# Altium integrated library Lattice FPGA EC.IntLib: 200 symbols (part 15 of 40)
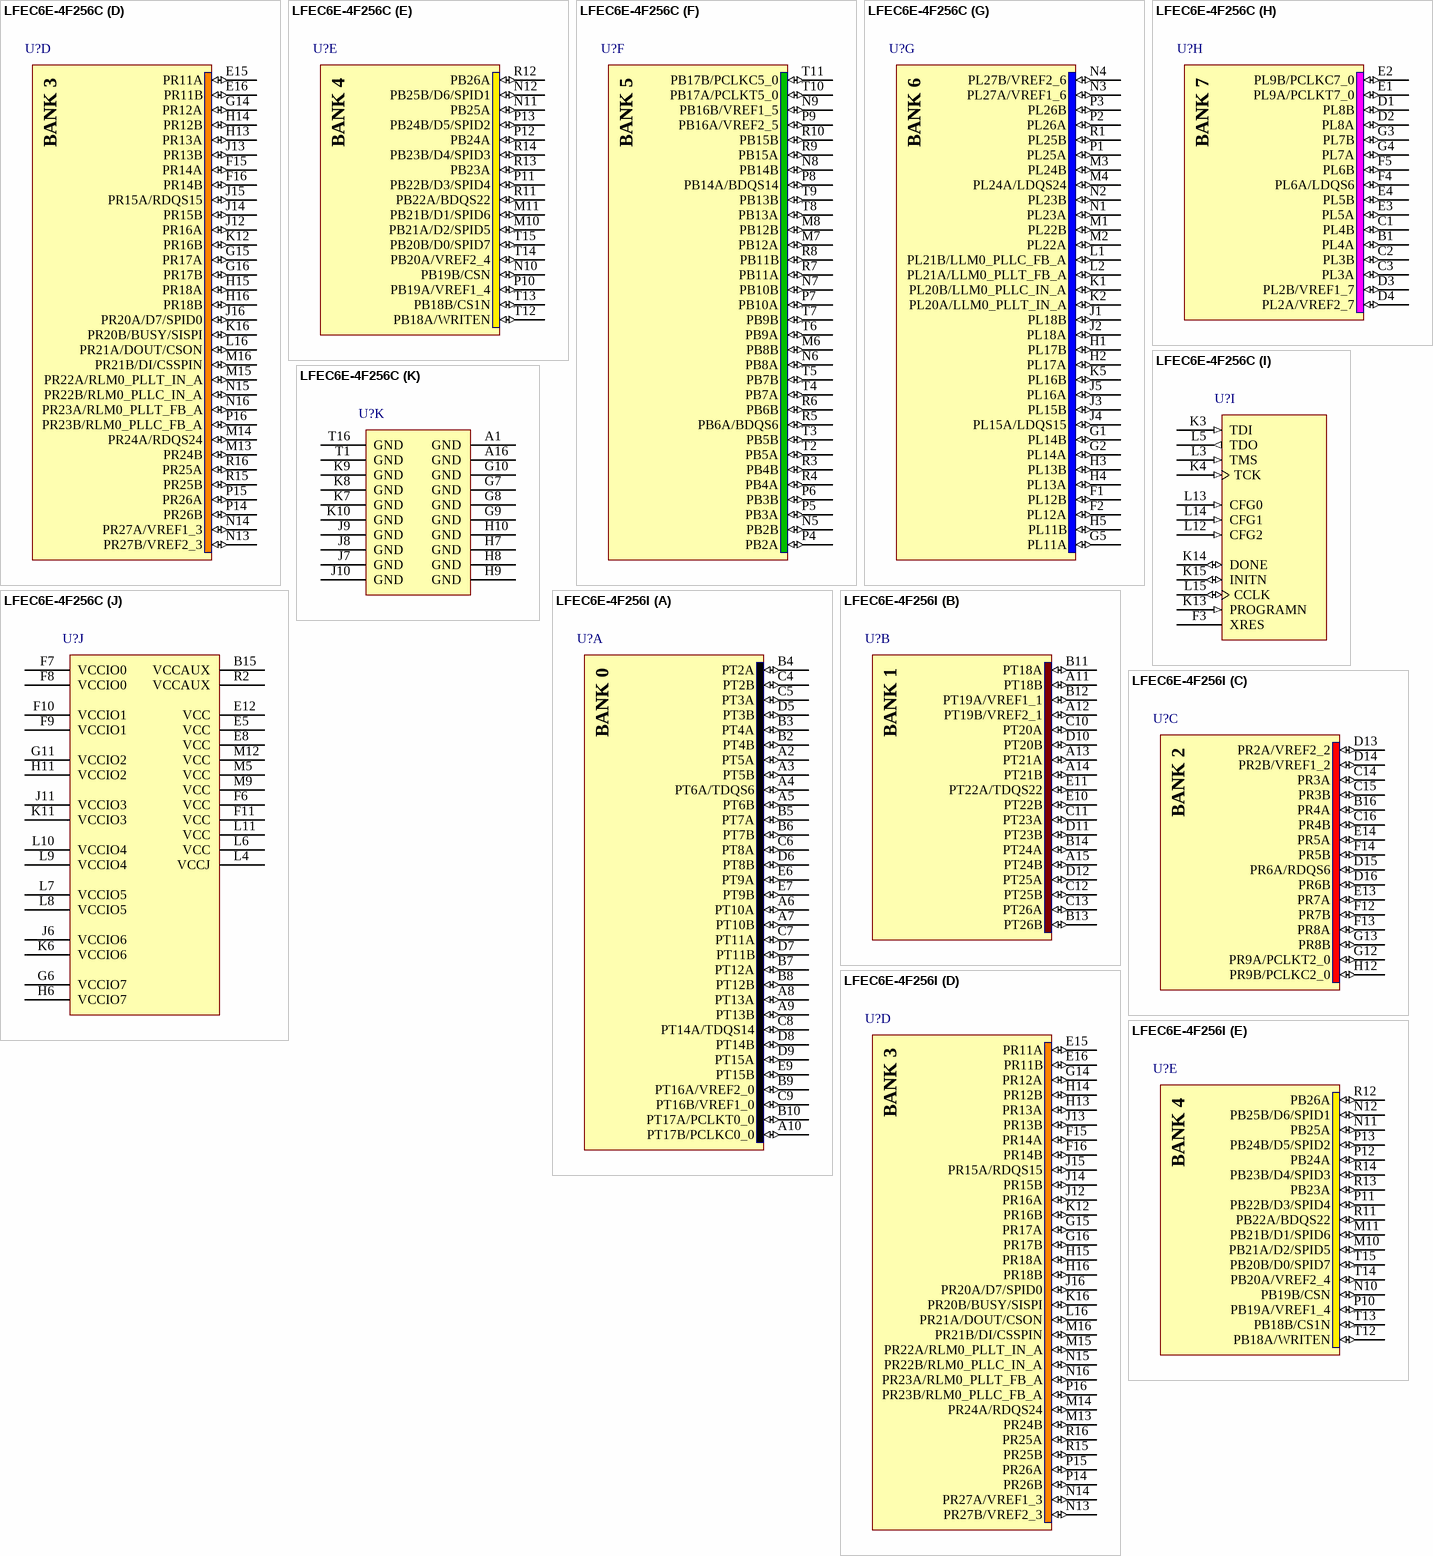
[diagram p186: symbols LFEC6E-4F256C to LFEC6E-4F256I]

## LFEC6E-4F256C
designator U?
EC 1.2V FPGA, 192 I/Os, 2 PLLs, 6.1K LUTs, 256-Pin fpBGA, Speed Grade 4, Commercial Temperature Grade; Published: 4-Mar-2005; LatestRevisionDate: 13-Apr-2006; LatestRevisionNote: IPC-7351 Footprint Added.; DatasheetVersion: ver2.2, Mar-2006; PackageVersion: pkg_33, Apr-2006; PackageReference: fpBGA256; Publisher: Altium Limited; PackageDescription: 256-Ball Fine Pitch Ball Grid Array (fpBGA256); Code_IPC: BGA100P16X16-256; ComponentLink1Description: Manufacturer Link; ComponentLink1URL: http://www.latticesemi.com/products/fpga/ecpec/index.cfm; ComponentLink2Description: Datasheet; ComponentLink2URL: http://www.latticesemi.com/lit/docs/datasheets/fpga/ecp_ec_datasheet.pdf; ComponentLink3Description: Packaging Specification; ComponentLink3URL: http://www.latticesemi.com/lit/docs/package/pkg.pdf; ComponentLink4Description: Lattice Login; ComponentLink4URL: http://www.latticesemi.com/account/login.cfm
footprint fpBGA256 (BGA, 256-Leads, Body 17x17mm, Pitch 1mm)
3D model EC6E-fpBGA256 (256-Ball Fine Pitch Ball Grid Array (fpBGA256))
part A pins: A2 PT5A (io), A3 PT5B (io), A4 PT6A/TDQS6 (io), A5 PT6B (io), A6 PT10A (io), A7 PT10B (io), A8 PT13A (io), A9 PT13B (io), A10 PT17B/PCLKC0_0 (io), B2 PT4B (io), B3 PT4A (io), B4 PT2A (io), B5 PT7A (io), B6 PT7B (io), B7 PT12A (io), B8 PT12B (io), B9 PT16A/VREF2_0 (io), B10 PT17A/PCLKT0_0 (io), C4 PT2B (io), C5 PT3A (io), C6 PT8A (io), C7 PT11A (io), C8 PT14A/TDQS14 (io), C9 PT16B/VREF1_0 (io), D5 PT3B (io), D6 PT8B (io), D7 PT11B (io), D8 PT14B (io), D9 PT15A (io), E6 PT9A (io), E7 PT9B (io), E9 PT15B (io)
part B pins: A11 PT18B (io), A12 PT19B/VREF2_1 (io), A13 PT21A (io), A14 PT21B (io), A15 PT24B (io), B11 PT18A (io), B12 PT19A/VREF1_1 (io), B13 PT26B (io), B14 PT24A (io), C10 PT20A (io), C11 PT23A (io), C12 PT25B (io), C13 PT26A (io), D10 PT20B (io), D11 PT23B (io), D12 PT25A (io), E10 PT22B (io), E11 PT22A/TDQS22 (io)
part C pins: B16 PR4A (io), C14 PR3A (io), C15 PR3B (io), C16 PR4B (io), D13 PR2A/VREF2_2 (io), D14 PR2B/VREF1_2 (io), D15 PR6A/RDQS6 (io), D16 PR6B (io), E13 PR7A (io), E14 PR5A (io), F12 PR7B (io), F13 PR8A (io), F14 PR5B (io), G12 PR9A/PCLKT2_0 (io), G13 PR8B (io), H12 PR9B/PCLKC2_0 (io)
part D pins: E15 PR11A (io), E16 PR11B (io), F15 PR14A (io), F16 PR14B (io), G14 PR12A (io), G15 PR17A (io), G16 PR17B (io), H13 PR13A (io), H14 PR12B (io), H15 PR18A (io), H16 PR18B (io), J12 PR16A (io), J13 PR13B (io), J14 PR15B (io), J15 PR15A/RDQS15 (io), J16 PR20A/D7/SPID0 (io), K12 PR16B (io), K16 PR20B/BUSY/SISPI (io), L16 PR21A/DOUT/CSON (io), M13 PR24B (io), M14 PR24A/RDQS24 (io), M15 PR22A/RLM0_PLLT_IN_A (io), M16 PR21B/DI/CSSPIN (io), N13 PR27B/VREF2_3 (io), N14 PR27A/VREF1_3 (io), N15 PR22B/RLM0_PLLC_IN_A (io), N16 PR23A/RLM0_PLLT_FB_A (io), P14 PR26B (io), P15 PR26A (io), P16 PR23B/RLM0_PLLC_FB_A (io), R15 PR25B (io), R16 PR25A (io)
part E pins: M10 PB21A/D2/SPID5 (io), M11 PB21B/D1/SPID6 (io), N10 PB19B/CSN (io), N11 PB25A (io), N12 PB25B/D6/SPID1 (io), P10 PB19A/VREF1_4 (io), P11 PB22B/D3/SPID4 (io), P12 PB24A (io), P13 PB24B/D5/SPID2 (io), R11 PB22A/BDQS22 (io), R12 PB26A (io), R13 PB23A (io), R14 PB23B/D4/SPID3 (io), T12 PB18A/WRITEN (io), T13 PB18B/CS1N (io), T14 PB20A/VREF2_4 (io), T15 PB20B/D0/SPID7 (io)
part F pins: M6 PB8B (io), M7 PB12A (io), M8 PB12B (io), N5 PB2B (io), N6 PB8A (io), N7 PB10B (io), N8 PB14B (io), N9 PB16B/VREF1_5 (io), P4 PB2A (io), P5 PB3A (io), P6 PB3B (io), P7 PB10A (io), P8 PB14A/BDQS14 (io), P9 PB16A/VREF2_5 (io), R3 PB4B (io), R4 PB4A (io), R5 PB6A/BDQS6 (io), R6 PB6B (io), R7 PB11A (io), R8 PB11B (io), R9 PB15A (io), R10 PB15B (io), T2 PB5A (io), T3 PB5B (io), T4 PB7A (io), T5 PB7B (io), T6 PB9A (io), T7 PB9B (io), T8 PB13A (io), T9 PB13B (io), T10 PB17A/PCLKT5_0 (io), T11 PB17B/PCLKC5_0 (io)
part G pins: F1 PL12B (io), F2 PL12A (io), G1 PL14B (io), G2 PL14A (io), G5 PL11A (io), H1 PL17B (io), H2 PL17A (io), H3 PL13B (io), H4 PL13A (io), H5 PL11B (io), J1 PL18B (io), J2 PL18A (io), J3 PL15B (io), J4 PL15A/LDQS15 (io), J5 PL16A (io), K1 PL20B/LLM0_PLLC_IN_A (io), K2 PL20A/LLM0_PLLT_IN_A (io), K5 PL16B (io), L1 PL21B/LLM0_PLLC_FB_A (io), L2 PL21A/LLM0_PLLT_FB_A (io), M1 PL22B (io), M2 PL22A (io), M3 PL24B (io), M4 PL24A/LDQS24 (io), N1 PL23A (io), N2 PL23B (io), N3 PL27A/VREF1_6 (io), N4 PL27B/VREF2_6 (io), P1 PL25A (io), P2 PL26A (io), P3 PL26B (io), R1 PL25B (io)
part H pins: B1 PL4A (io), C1 PL4B (io), C2 PL3B (io), C3 PL3A (io), D1 PL8B (io), D2 PL8A (io), D3 PL2B/VREF1_7 (io), D4 PL2A/VREF2_7 (io), E1 PL9A/PCLKT7_0 (io), E2 PL9B/PCLKC7_0 (io), E3 PL5A (io), E4 PL5B (io), F4 PL6A/LDQS6 (io), F5 PL6B (io), G3 PL7B (io), G4 PL7A (io)
part I pins: F3 XRES, K3 TDI (in), K4 TCK (in), K13 PROGRAMN (in), K14 DONE (io), K15 INITN (io), L3 TMS (in), L5 TDO (out), L12 CFG2 (in), L13 CFG0 (in), L14 CFG1 (in), L15 CCLK (io)
part J pins: B15 VCCAUX (power), E5 VCC (power), E8 VCC (power), E12 VCC (power), F6 VCC (power), F7 VCCIO0 (power), F8 VCCIO0 (power), F9 VCCIO1 (power), F10 VCCIO1 (power), F11 VCC (power), G6 VCCIO7 (power), G11 VCCIO2 (power), H6 VCCIO7 (power), H11 VCCIO2 (power), J6 VCCIO6 (power), J11 VCCIO3 (power), K6 VCCIO6 (power), K11 VCCIO3 (power), L4 VCCJ (power), L6 VCC (power), L7 VCCIO5 (power), L8 VCCIO5 (power), L9 VCCIO4 (power), L10 VCCIO4 (power), L11 VCC (power), M5 VCC (power), M9 VCC (power), M12 VCC (power), R2 VCCAUX (power)
part K pins: A1 GND (power), A16 GND (power), G7 GND (power), G8 GND (power), G9 GND (power), G10 GND (power), H7 GND (power), H8 GND (power), H9 GND (power), H10 GND (power), J7 GND (power), J8 GND (power), J9 GND (power), J10 GND (power), K7 GND (power), K8 GND (power), K9 GND (power), K10 GND (power), T1 GND (power), T16 GND (power)
part A text: BANK 0
part B text: BANK 1
part C text: BANK 2
part D text: BANK 3
part E text: BANK 4
part F text: BANK 5
part G text: BANK 6
part H text: BANK 7

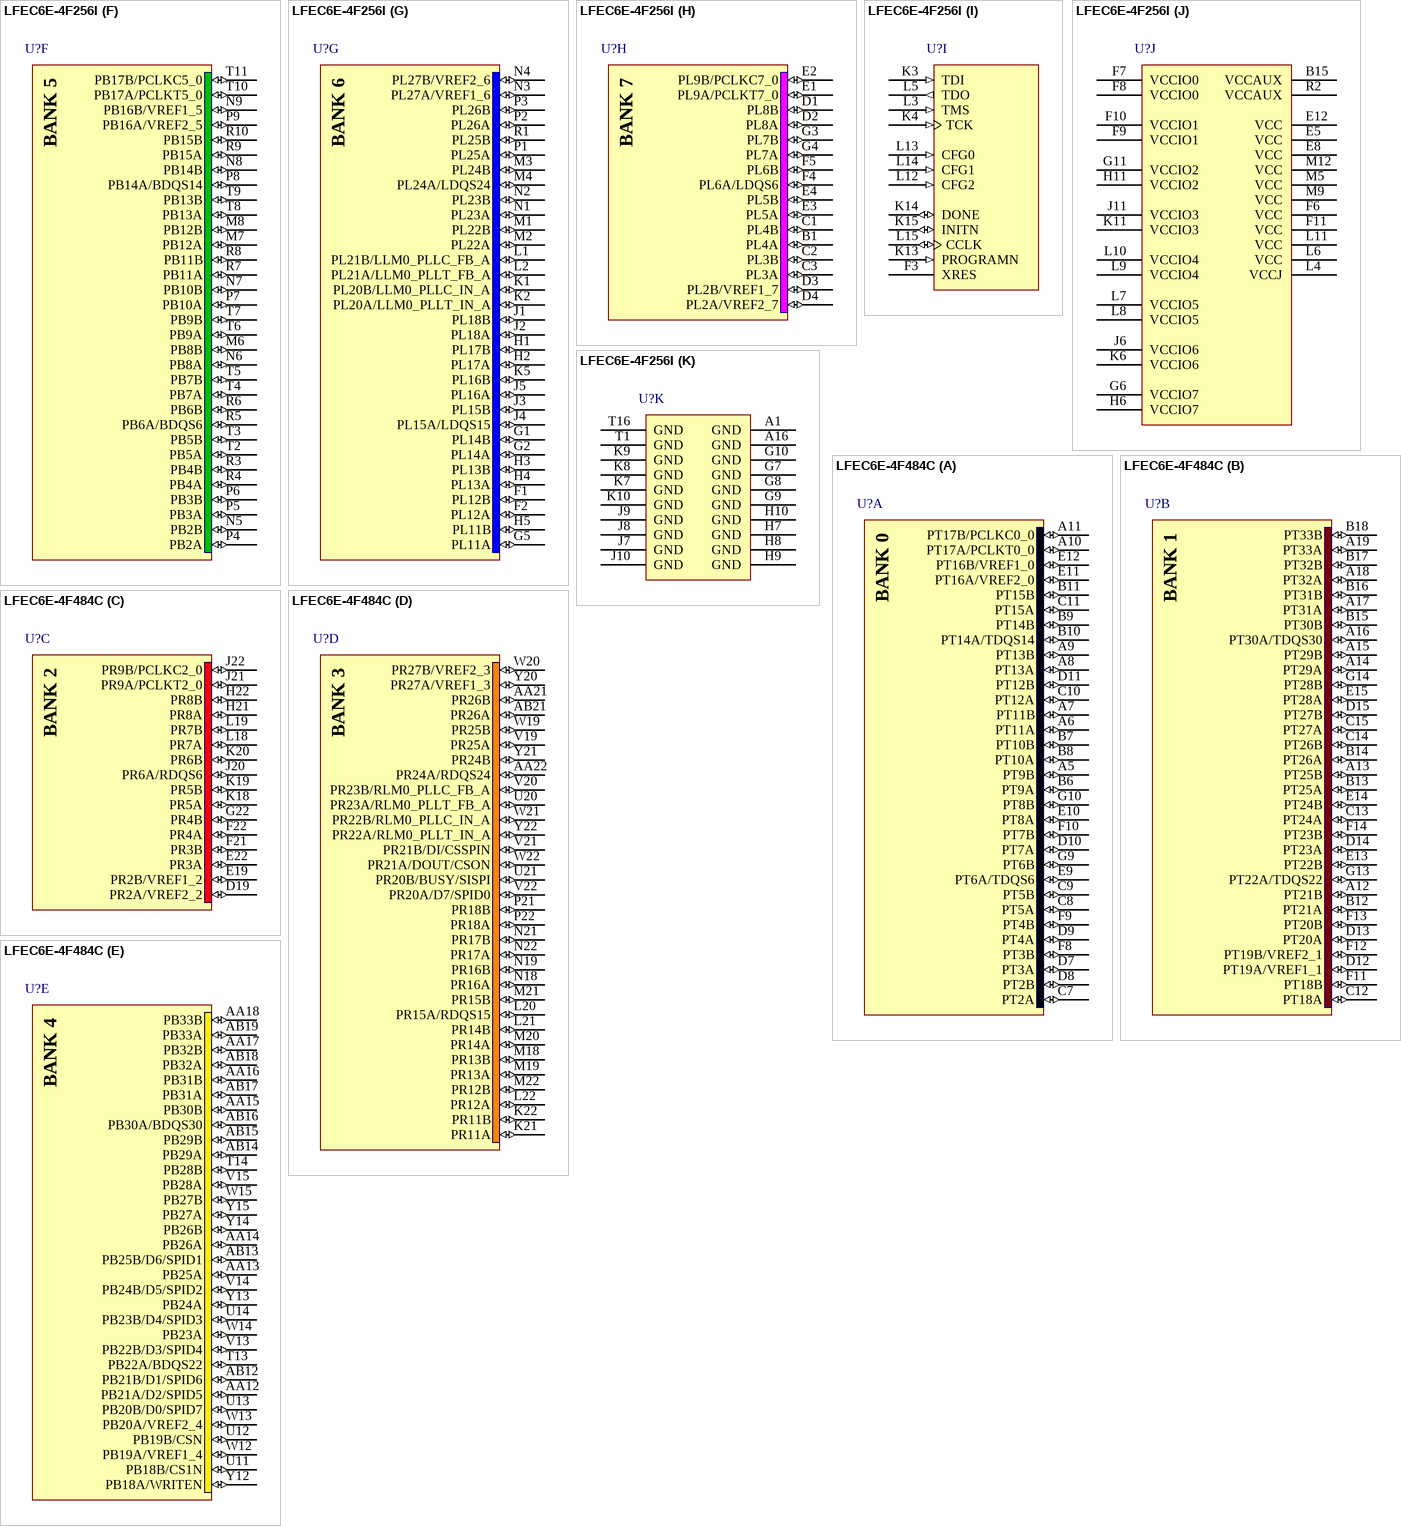
[diagram p54: symbols LFEC6E-4F256I to LFEC6E-4F484C]

## LFEC6E-4F256I
designator U?
EC 1.2V FPGA, 192 I/Os, 2 PLLs, 6.1K LUTs, 256-Pin fpBGA, Speed Grade 4, Industrial Temperature Grade; Published: 4-Mar-2005; LatestRevisionDate: 13-Apr-2006; LatestRevisionNote: IPC-7351 Footprint Added.; DatasheetVersion: ver2.2, Mar-2006; PackageVersion: pkg_33, Apr-2006; PackageReference: fpBGA256; Publisher: Altium Limited; PackageDescription: 256-Ball Fine Pitch Ball Grid Array (fpBGA256); Code_IPC: BGA100P16X16-256; ComponentLink1Description: Manufacturer Link; ComponentLink1URL: http://www.latticesemi.com/products/fpga/ecpec/index.cfm; ComponentLink2Description: Datasheet; ComponentLink2URL: http://www.latticesemi.com/lit/docs/datasheets/fpga/ecp_ec_datasheet.pdf; ComponentLink3Description: Packaging Specification; ComponentLink3URL: http://www.latticesemi.com/lit/docs/package/pkg.pdf; ComponentLink4Description: Lattice Login; ComponentLink4URL: http://www.latticesemi.com/account/login.cfm
footprint fpBGA256 (BGA, 256-Leads, Body 17x17mm, Pitch 1mm)
3D model EC6E-fpBGA256 (256-Ball Fine Pitch Ball Grid Array (fpBGA256))
part A pins: A2 PT5A (io), A3 PT5B (io), A4 PT6A/TDQS6 (io), A5 PT6B (io), A6 PT10A (io), A7 PT10B (io), A8 PT13A (io), A9 PT13B (io), A10 PT17B/PCLKC0_0 (io), B2 PT4B (io), B3 PT4A (io), B4 PT2A (io), B5 PT7A (io), B6 PT7B (io), B7 PT12A (io), B8 PT12B (io), B9 PT16A/VREF2_0 (io), B10 PT17A/PCLKT0_0 (io), C4 PT2B (io), C5 PT3A (io), C6 PT8A (io), C7 PT11A (io), C8 PT14A/TDQS14 (io), C9 PT16B/VREF1_0 (io), D5 PT3B (io), D6 PT8B (io), D7 PT11B (io), D8 PT14B (io), D9 PT15A (io), E6 PT9A (io), E7 PT9B (io), E9 PT15B (io)
part B pins: A11 PT18B (io), A12 PT19B/VREF2_1 (io), A13 PT21A (io), A14 PT21B (io), A15 PT24B (io), B11 PT18A (io), B12 PT19A/VREF1_1 (io), B13 PT26B (io), B14 PT24A (io), C10 PT20A (io), C11 PT23A (io), C12 PT25B (io), C13 PT26A (io), D10 PT20B (io), D11 PT23B (io), D12 PT25A (io), E10 PT22B (io), E11 PT22A/TDQS22 (io)
part C pins: B16 PR4A (io), C14 PR3A (io), C15 PR3B (io), C16 PR4B (io), D13 PR2A/VREF2_2 (io), D14 PR2B/VREF1_2 (io), D15 PR6A/RDQS6 (io), D16 PR6B (io), E13 PR7A (io), E14 PR5A (io), F12 PR7B (io), F13 PR8A (io), F14 PR5B (io), G12 PR9A/PCLKT2_0 (io), G13 PR8B (io), H12 PR9B/PCLKC2_0 (io)
part D pins: E15 PR11A (io), E16 PR11B (io), F15 PR14A (io), F16 PR14B (io), G14 PR12A (io), G15 PR17A (io), G16 PR17B (io), H13 PR13A (io), H14 PR12B (io), H15 PR18A (io), H16 PR18B (io), J12 PR16A (io), J13 PR13B (io), J14 PR15B (io), J15 PR15A/RDQS15 (io), J16 PR20A/D7/SPID0 (io), K12 PR16B (io), K16 PR20B/BUSY/SISPI (io), L16 PR21A/DOUT/CSON (io), M13 PR24B (io), M14 PR24A/RDQS24 (io), M15 PR22A/RLM0_PLLT_IN_A (io), M16 PR21B/DI/CSSPIN (io), N13 PR27B/VREF2_3 (io), N14 PR27A/VREF1_3 (io), N15 PR22B/RLM0_PLLC_IN_A (io), N16 PR23A/RLM0_PLLT_FB_A (io), P14 PR26B (io), P15 PR26A (io), P16 PR23B/RLM0_PLLC_FB_A (io), R15 PR25B (io), R16 PR25A (io)
part E pins: M10 PB21A/D2/SPID5 (io), M11 PB21B/D1/SPID6 (io), N10 PB19B/CSN (io), N11 PB25A (io), N12 PB25B/D6/SPID1 (io), P10 PB19A/VREF1_4 (io), P11 PB22B/D3/SPID4 (io), P12 PB24A (io), P13 PB24B/D5/SPID2 (io), R11 PB22A/BDQS22 (io), R12 PB26A (io), R13 PB23A (io), R14 PB23B/D4/SPID3 (io), T12 PB18A/WRITEN (io), T13 PB18B/CS1N (io), T14 PB20A/VREF2_4 (io), T15 PB20B/D0/SPID7 (io)
part F pins: M6 PB8B (io), M7 PB12A (io), M8 PB12B (io), N5 PB2B (io), N6 PB8A (io), N7 PB10B (io), N8 PB14B (io), N9 PB16B/VREF1_5 (io), P4 PB2A (io), P5 PB3A (io), P6 PB3B (io), P7 PB10A (io), P8 PB14A/BDQS14 (io), P9 PB16A/VREF2_5 (io), R3 PB4B (io), R4 PB4A (io), R5 PB6A/BDQS6 (io), R6 PB6B (io), R7 PB11A (io), R8 PB11B (io), R9 PB15A (io), R10 PB15B (io), T2 PB5A (io), T3 PB5B (io), T4 PB7A (io), T5 PB7B (io), T6 PB9A (io), T7 PB9B (io), T8 PB13A (io), T9 PB13B (io), T10 PB17A/PCLKT5_0 (io), T11 PB17B/PCLKC5_0 (io)
part G pins: F1 PL12B (io), F2 PL12A (io), G1 PL14B (io), G2 PL14A (io), G5 PL11A (io), H1 PL17B (io), H2 PL17A (io), H3 PL13B (io), H4 PL13A (io), H5 PL11B (io), J1 PL18B (io), J2 PL18A (io), J3 PL15B (io), J4 PL15A/LDQS15 (io), J5 PL16A (io), K1 PL20B/LLM0_PLLC_IN_A (io), K2 PL20A/LLM0_PLLT_IN_A (io), K5 PL16B (io), L1 PL21B/LLM0_PLLC_FB_A (io), L2 PL21A/LLM0_PLLT_FB_A (io), M1 PL22B (io), M2 PL22A (io), M3 PL24B (io), M4 PL24A/LDQS24 (io), N1 PL23A (io), N2 PL23B (io), N3 PL27A/VREF1_6 (io), N4 PL27B/VREF2_6 (io), P1 PL25A (io), P2 PL26A (io), P3 PL26B (io), R1 PL25B (io)
part H pins: B1 PL4A (io), C1 PL4B (io), C2 PL3B (io), C3 PL3A (io), D1 PL8B (io), D2 PL8A (io), D3 PL2B/VREF1_7 (io), D4 PL2A/VREF2_7 (io), E1 PL9A/PCLKT7_0 (io), E2 PL9B/PCLKC7_0 (io), E3 PL5A (io), E4 PL5B (io), F4 PL6A/LDQS6 (io), F5 PL6B (io), G3 PL7B (io), G4 PL7A (io)
part I pins: F3 XRES, K3 TDI (in), K4 TCK (in), K13 PROGRAMN (in), K14 DONE (io), K15 INITN (io), L3 TMS (in), L5 TDO (out), L12 CFG2 (in), L13 CFG0 (in), L14 CFG1 (in), L15 CCLK (io)
part J pins: B15 VCCAUX (power), E5 VCC (power), E8 VCC (power), E12 VCC (power), F6 VCC (power), F7 VCCIO0 (power), F8 VCCIO0 (power), F9 VCCIO1 (power), F10 VCCIO1 (power), F11 VCC (power), G6 VCCIO7 (power), G11 VCCIO2 (power), H6 VCCIO7 (power), H11 VCCIO2 (power), J6 VCCIO6 (power), J11 VCCIO3 (power), K6 VCCIO6 (power), K11 VCCIO3 (power), L4 VCCJ (power), L6 VCC (power), L7 VCCIO5 (power), L8 VCCIO5 (power), L9 VCCIO4 (power), L10 VCCIO4 (power), L11 VCC (power), M5 VCC (power), M9 VCC (power), M12 VCC (power), R2 VCCAUX (power)
part K pins: A1 GND (power), A16 GND (power), G7 GND (power), G8 GND (power), G9 GND (power), G10 GND (power), H7 GND (power), H8 GND (power), H9 GND (power), H10 GND (power), J7 GND (power), J8 GND (power), J9 GND (power), J10 GND (power), K7 GND (power), K8 GND (power), K9 GND (power), K10 GND (power), T1 GND (power), T16 GND (power)
part A text: BANK 0
part B text: BANK 1
part C text: BANK 2
part D text: BANK 3
part E text: BANK 4
part F text: BANK 5
part G text: BANK 6
part H text: BANK 7

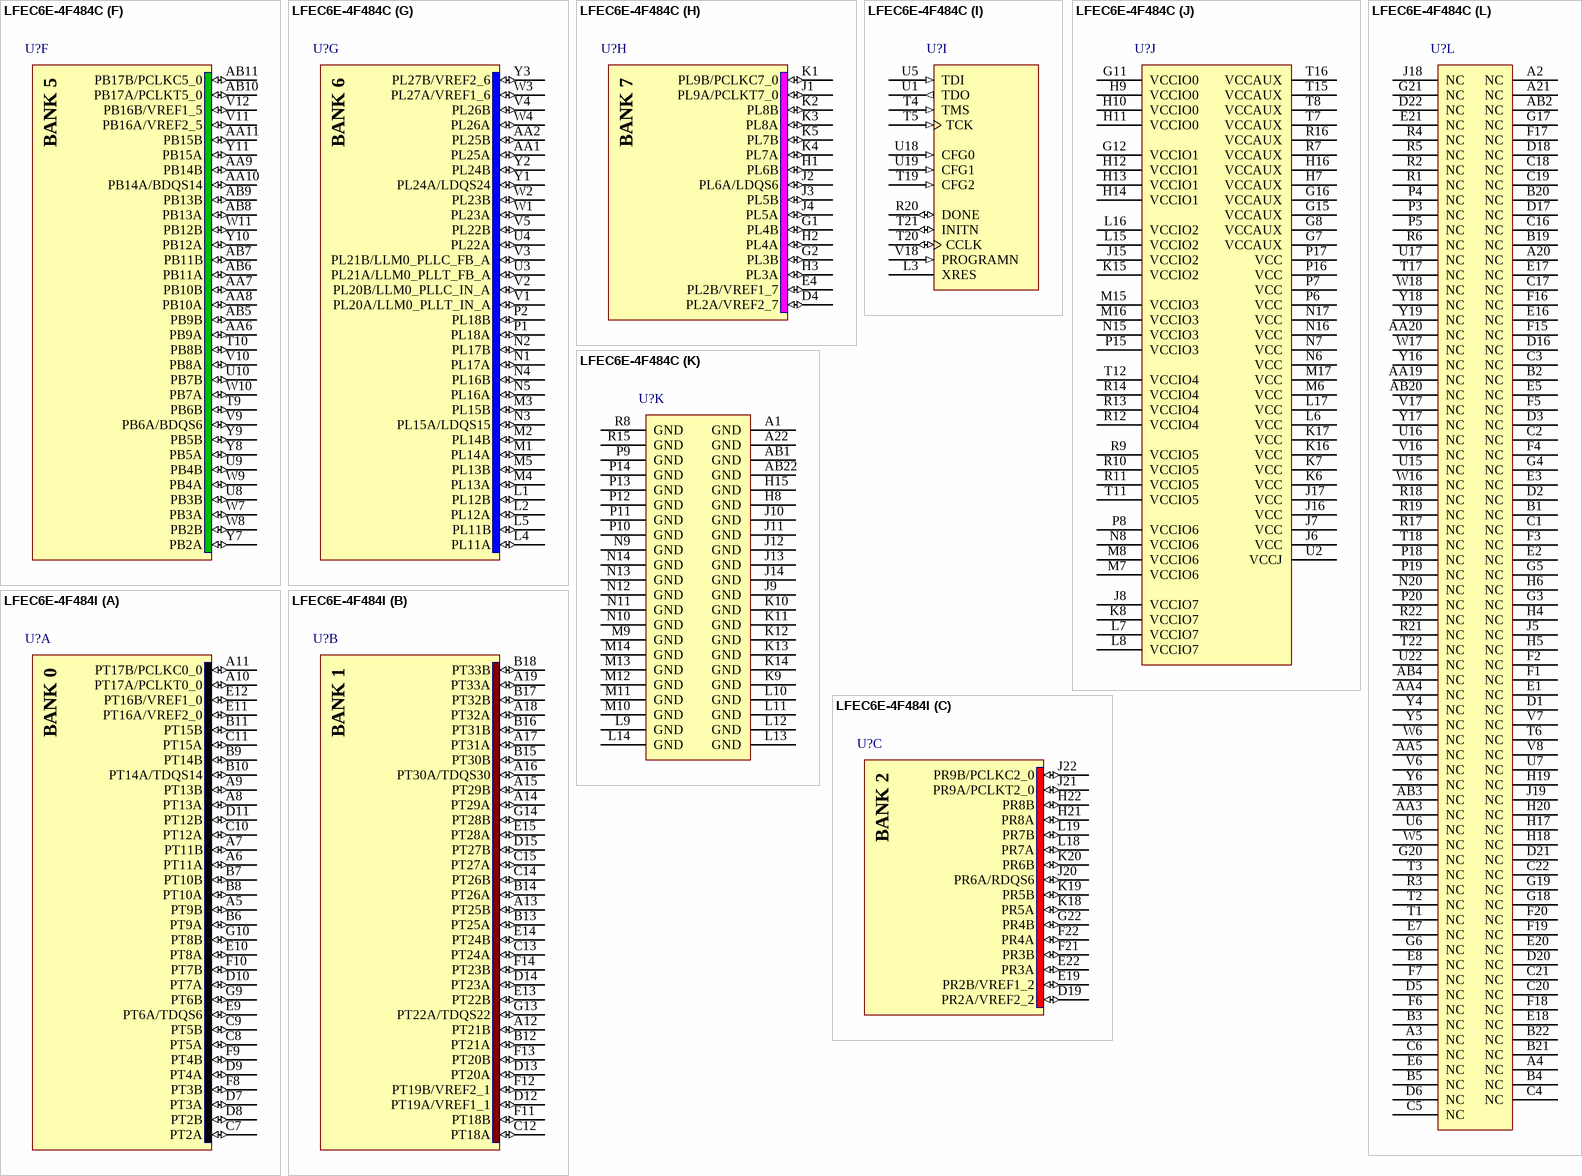
[diagram p55: symbols LFEC6E-4F484C to LFEC6E-4F484I]

## LFEC6E-4F484C
designator U?
EC 1.2V FPGA, 224 I/Os, 2 PLLs, 6.1K LUTs, 484-Pin fpBGA, Speed Grade 4, Commercial Temperature Grade; Published: 4-Mar-2005; LatestRevisionDate: 13-Apr-2006; LatestRevisionNote: IPC-7351 Footprint Added.; DatasheetVersion: ver2.2, Mar-2006; PackageVersion: pkg_33, Apr-2006; PackageReference: fpBGA484; Publisher: Altium Limited; PackageDescription: 484-Ball Fine Pitch Ball Grid Array (fpBGA484); Code_IPC: BGA100P22X22-484; ComponentLink1Description: Manufacturer Link; ComponentLink1URL: http://www.latticesemi.com/products/fpga/ecpec/index.cfm; ComponentLink2Description: Datasheet; ComponentLink2URL: http://www.latticesemi.com/lit/docs/datasheets/fpga/ecp_ec_datasheet.pdf; ComponentLink3Description: Packaging Specification; ComponentLink3URL: http://www.latticesemi.com/lit/docs/package/pkg.pdf; ComponentLink4Description: Lattice Login; ComponentLink4URL: http://www.latticesemi.com/account/login.cfm
footprint fpBGA484 (BGA, 484-Leads, Body 23x23mm, Pitch 1mm)
3D model EC6E-fpBGA484 (484-Ball Fine Pitch Ball Grid Array (fpBGA484))
part A pins: A5 PT9B (io), A6 PT11A (io), A7 PT11B (io), A8 PT13A (io), A9 PT13B (io), A10 PT17A/PCLKT0_0 (io), A11 PT17B/PCLKC0_0 (io), B6 PT9A (io), B7 PT10B (io), B8 PT10A (io), B9 PT14B (io), B10 PT14A/TDQS14 (io), B11 PT15B (io), C7 PT2A (io), C8 PT5A (io), C9 PT5B (io), C10 PT12A (io), C11 PT15A (io), D7 PT3A (io), D8 PT2B (io), D9 PT4A (io), D10 PT7A (io), D11 PT12B (io), E9 PT6A/TDQS6 (io), E10 PT8A (io), E11 PT16A/VREF2_0 (io), E12 PT16B/VREF1_0 (io), F8 PT3B (io), F9 PT4B (io), F10 PT7B (io), G9 PT6B (io), G10 PT8B (io)
part B pins: A12 PT21B (io), A13 PT25B (io), A14 PT29A (io), A15 PT29B (io), A16 PT30A/TDQS30 (io), A17 PT31A (io), A18 PT32A (io), A19 PT33A (io), B12 PT21A (io), B13 PT25A (io), B14 PT26A (io), B15 PT30B (io), B16 PT31B (io), B17 PT32B (io), B18 PT33B (io), C12 PT18A (io), C13 PT24A (io), C14 PT26B (io), C15 PT27A (io), D12 PT19A/VREF1_1 (io), D13 PT20A (io), D14 PT23A (io), D15 PT27B (io), E13 PT22B (io), E14 PT24B (io), E15 PT28A (io), F11 PT18B (io), F12 PT19B/VREF2_1 (io), F13 PT20B (io), F14 PT23B (io), G13 PT22A/TDQS22 (io), G14 PT28B (io)
part C pins: D19 PR2A/VREF2_2 (io), E19 PR2B/VREF1_2 (io), E22 PR3A (io), F21 PR3B (io), F22 PR4A (io), G22 PR4B (io), H21 PR8A (io), H22 PR8B (io), J20 PR6A/RDQS6 (io), J21 PR9A/PCLKT2_0 (io), J22 PR9B/PCLKC2_0 (io), K18 PR5A (io), K19 PR5B (io), K20 PR6B (io), L18 PR7A (io), L19 PR7B (io)
part D pins: AA21 PR26B (io), AA22 PR24A/RDQS24 (io), AB21 PR26A (io), K21 PR11A (io), K22 PR11B (io), L20 PR15A/RDQS15 (io), L21 PR14B (io), L22 PR12A (io), M18 PR13B (io), M19 PR13A (io), M20 PR14A (io), M21 PR15B (io), M22 PR12B (io), N18 PR16A (io), N19 PR16B (io), N21 PR17B (io), N22 PR17A (io), P21 PR18B (io), P22 PR18A (io), U20 PR23A/RLM0_PLLT_FB_A (io), U21 PR20B/BUSY/SISPI (io), V19 PR25A (io), V20 PR23B/RLM0_PLLC_FB_A (io), V21 PR21B/DI/CSSPIN (io), V22 PR20A/D7/SPID0 (io), W19 PR25B (io), W20 PR27B/VREF2_3 (io), W21 PR22B/RLM0_PLLC_IN_A (io), W22 PR21A/DOUT/CSON (io), Y20 PR27A/VREF1_3 (io), Y21 PR24B (io), Y22 PR22A/RLM0_PLLT_IN_A (io)
part E pins: AA12 PB21A/D2/SPID5 (io), AA13 PB25A (io), AA14 PB26A (io), AA15 PB30B (io), AA16 PB31B (io), AA17 PB32B (io), AA18 PB33B (io), AB12 PB21B/D1/SPID6 (io), AB13 PB25B/D6/SPID1 (io), AB14 PB29A (io), AB15 PB29B (io), AB16 PB30A/BDQS30 (io), AB17 PB31A (io), AB18 PB32A (io), AB19 PB33A (io), T13 PB22A/BDQS22 (io), T14 PB28B (io), U11 PB18B/CS1N (io), U12 PB19B/CSN (io), U13 PB20B/D0/SPID7 (io), U14 PB23B/D4/SPID3 (io), V13 PB22B/D3/SPID4 (io), V14 PB24B/D5/SPID2 (io), V15 PB28A (io), W12 PB19A/VREF1_4 (io), W13 PB20A/VREF2_4 (io), W14 PB23A (io), W15 PB27B (io), Y12 PB18A/WRITEN (io), Y13 PB24A (io), Y14 PB26B (io), Y15 PB27A (io)
part F pins: AA6 PB9A (io), AA7 PB10B (io), AA8 PB10A (io), AA9 PB14B (io), AA10 PB14A/BDQS14 (io), AA11 PB15B (io), AB5 PB9B (io), AB6 PB11A (io), AB7 PB11B (io), AB8 PB13A (io), AB9 PB13B (io), AB10 PB17A/PCLKT5_0 (io), AB11 PB17B/PCLKC5_0 (io), T9 PB6B (io), T10 PB8B (io), U8 PB3B (io), U9 PB4B (io), U10 PB7B (io), V9 PB6A/BDQS6 (io), V10 PB8A (io), V11 PB16A/VREF2_5 (io), V12 PB16B/VREF1_5 (io), W7 PB3A (io), W8 PB2B (io), W9 PB4A (io), W10 PB7A (io), W11 PB12B (io), Y7 PB2A (io), Y8 PB5A (io), Y9 PB5B (io), Y10 PB12A (io), Y11 PB15A (io)
part G pins: AA1 PL25A (io), AA2 PL25B (io), L1 PL12B (io), L2 PL12A (io), L4 PL11A (io), L5 PL11B (io), M1 PL14A (io), M2 PL14B (io), M3 PL15B (io), M4 PL13A (io), M5 PL13B (io), N1 PL17A (io), N2 PL17B (io), N3 PL15A/LDQS15 (io), N4 PL16B (io), N5 PL16A (io), P1 PL18A (io), P2 PL18B (io), U3 PL21A/LLM0_PLLT_FB_A (io), U4 PL22A (io), V1 PL20A/LLM0_PLLT_IN_A (io), V2 PL20B/LLM0_PLLC_IN_A (io), V3 PL21B/LLM0_PLLC_FB_A (io), V4 PL26B (io), V5 PL22B (io), W1 PL23A (io), W2 PL23B (io), W3 PL27A/VREF1_6 (io), W4 PL26A (io), Y1 PL24A/LDQS24 (io), Y2 PL24B (io), Y3 PL27B/VREF2_6 (io)
part H pins: D4 PL2A/VREF2_7 (io), E4 PL2B/VREF1_7 (io), G1 PL4B (io), G2 PL3B (io), H1 PL6B (io), H2 PL4A (io), H3 PL3A (io), J1 PL9A/PCLKT7_0 (io), J2 PL6A/LDQS6 (io), J3 PL5B (io), J4 PL5A (io), K1 PL9B/PCLKC7_0 (io), K2 PL8B (io), K3 PL8A (io), K4 PL7A (io), K5 PL7B (io)
part I pins: L3 XRES, R20 DONE (io), T4 TMS (in), T5 TCK (in), T19 CFG2 (in), T20 CCLK (io), T21 INITN (io), U1 TDO (out), U5 TDI (in), U18 CFG0 (in), U19 CFG1 (in), V18 PROGRAMN (in)
part J pins: G7 VCCAUX (power), G8 VCCAUX (power), G11 VCCIO0 (power), G12 VCCIO1 (power), G15 VCCAUX (power), G16 VCCAUX (power), H7 VCCAUX (power), H9 VCCIO0 (power), H10 VCCIO0 (power), H11 VCCIO0 (power), H12 VCCIO1 (power), H13 VCCIO1 (power), H14 VCCIO1 (power), H16 VCCAUX (power), J6 VCC (power), J7 VCC (power), J8 VCCIO7 (power), J15 VCCIO2 (power), J16 VCC (power), J17 VCC (power), K6 VCC (power), K7 VCC (power), K8 VCCIO7 (power), K15 VCCIO2 (power), K16 VCC (power), K17 VCC (power), L6 VCC (power), L7 VCCIO7 (power), L8 VCCIO7 (power), L15 VCCIO2 (power), L16 VCCIO2 (power), L17 VCC (power), M6 VCC (power), M7 VCCIO6 (power), M8 VCCIO6 (power), M15 VCCIO3 (power), M16 VCCIO3 (power), M17 VCC (power), N6 VCC (power), N7 VCC (power), N8 VCCIO6 (power), N15 VCCIO3 (power), N16 VCC (power), N17 VCC (power), P6 VCC (power), P7 VCC (power), P8 VCCIO6 (power), P15 VCCIO3 (power), P16 VCC (power), P17 VCC (power), R7 VCCAUX (power), R9 VCCIO5 (power), R10 VCCIO5 (power), R11 VCCIO5 (power), R12 VCCIO4 (power), R13 VCCIO4 (power), R14 VCCIO4 (power), R16 VCCAUX (power), T7 VCCAUX (power), T8 VCCAUX (power), T11 VCCIO5 (power), T12 VCCIO4 (power), T15 VCCAUX (power), T16 VCCAUX (power), U2 VCCJ (power)
part K pins: A1 GND (power), A22 GND (power), AB1 GND (power), AB22 GND (power), H8 GND (power), H15 GND (power), J9 GND (power), J10 GND (power), J11 GND (power), J12 GND (power), J13 GND (power), J14 GND (power), K9 GND (power), K10 GND (power), K11 GND (power), K12 GND (power), K13 GND (power), K14 GND (power), L9 GND (power), L10 GND (power), L11 GND (power), L12 GND (power), L13 GND (power), L14 GND (power), M9 GND (power), M10 GND (power), M11 GND (power), M12 GND (power), M13 GND (power), M14 GND (power), N9 GND (power), N10 GND (power), N11 GND (power), N12 GND (power), N13 GND (power), N14 GND (power), P9 GND (power), P10 GND (power), P11 GND (power), P12 GND (power), P13 GND (power), P14 GND (power), R8 GND (power), R15 GND (power)
part L pins: A2 NC, A3 NC, A4 NC, A20 NC, A21 NC, AA3 NC, AA4 NC, AA5 NC, AA19 NC, AA20 NC, AB2 NC, AB3 NC, AB4 NC, AB20 NC, B1 NC, B2 NC, B3 NC, B4 NC, B5 NC, B19 NC, B20 NC, B21 NC, B22 NC, C1 NC, C2 NC, C3 NC, C4 NC, C5 NC, C6 NC, C16 NC, C17 NC, C18 NC, C19 NC, C20 NC, C21 NC, C22 NC, D1 NC, D2 NC, D3 NC, D5 NC, D6 NC, D16 NC, D17 NC, D18 NC, D20 NC, D21 NC, D22 NC, E1 NC, E2 NC, E3 NC, E5 NC, E6 NC, E7 NC, E8 NC, E16 NC, E17 NC, E18 NC, E20 NC, E21 NC, F1 NC, F2 NC, F3 NC, F4 NC, F5 NC, F6 NC, F7 NC, F15 NC, F16 NC, F17 NC, F18 NC, F19 NC, F20 NC, G3 NC, G4 NC, G5 NC, G6 NC, G17 NC, G18 NC, G19 NC, G20 NC, G21 NC, H4 NC, H5 NC, H6 NC, H17 NC, H18 NC, H19 NC, H20 NC, J5 NC, J18 NC, J19 NC, N20 NC, P3 NC, P4 NC, P5 NC, P18 NC, P19 NC, P20 NC, R1 NC, R2 NC, R3 NC, R4 NC, R5 NC, R6 NC, R17 NC, R18 NC, R19 NC, R21 NC, R22 NC, T1 NC, T2 NC, T3 NC, T6 NC, T17 NC, T18 NC, T22 NC, U6 NC, U7 NC, U15 NC, U16 NC, U17 NC, U22 NC, V6 NC, V7 NC, V8 NC, V16 NC, V17 NC, W5 NC, W6 NC, W16 NC, W17 NC, W18 NC, Y4 NC, Y5 NC, Y6 NC, Y16 NC, Y17 NC, Y18 NC, Y19 NC
part A text: BANK 0
part B text: BANK 1
part C text: BANK 2
part D text: BANK 3
part E text: BANK 4
part F text: BANK 5
part G text: BANK 6
part H text: BANK 7

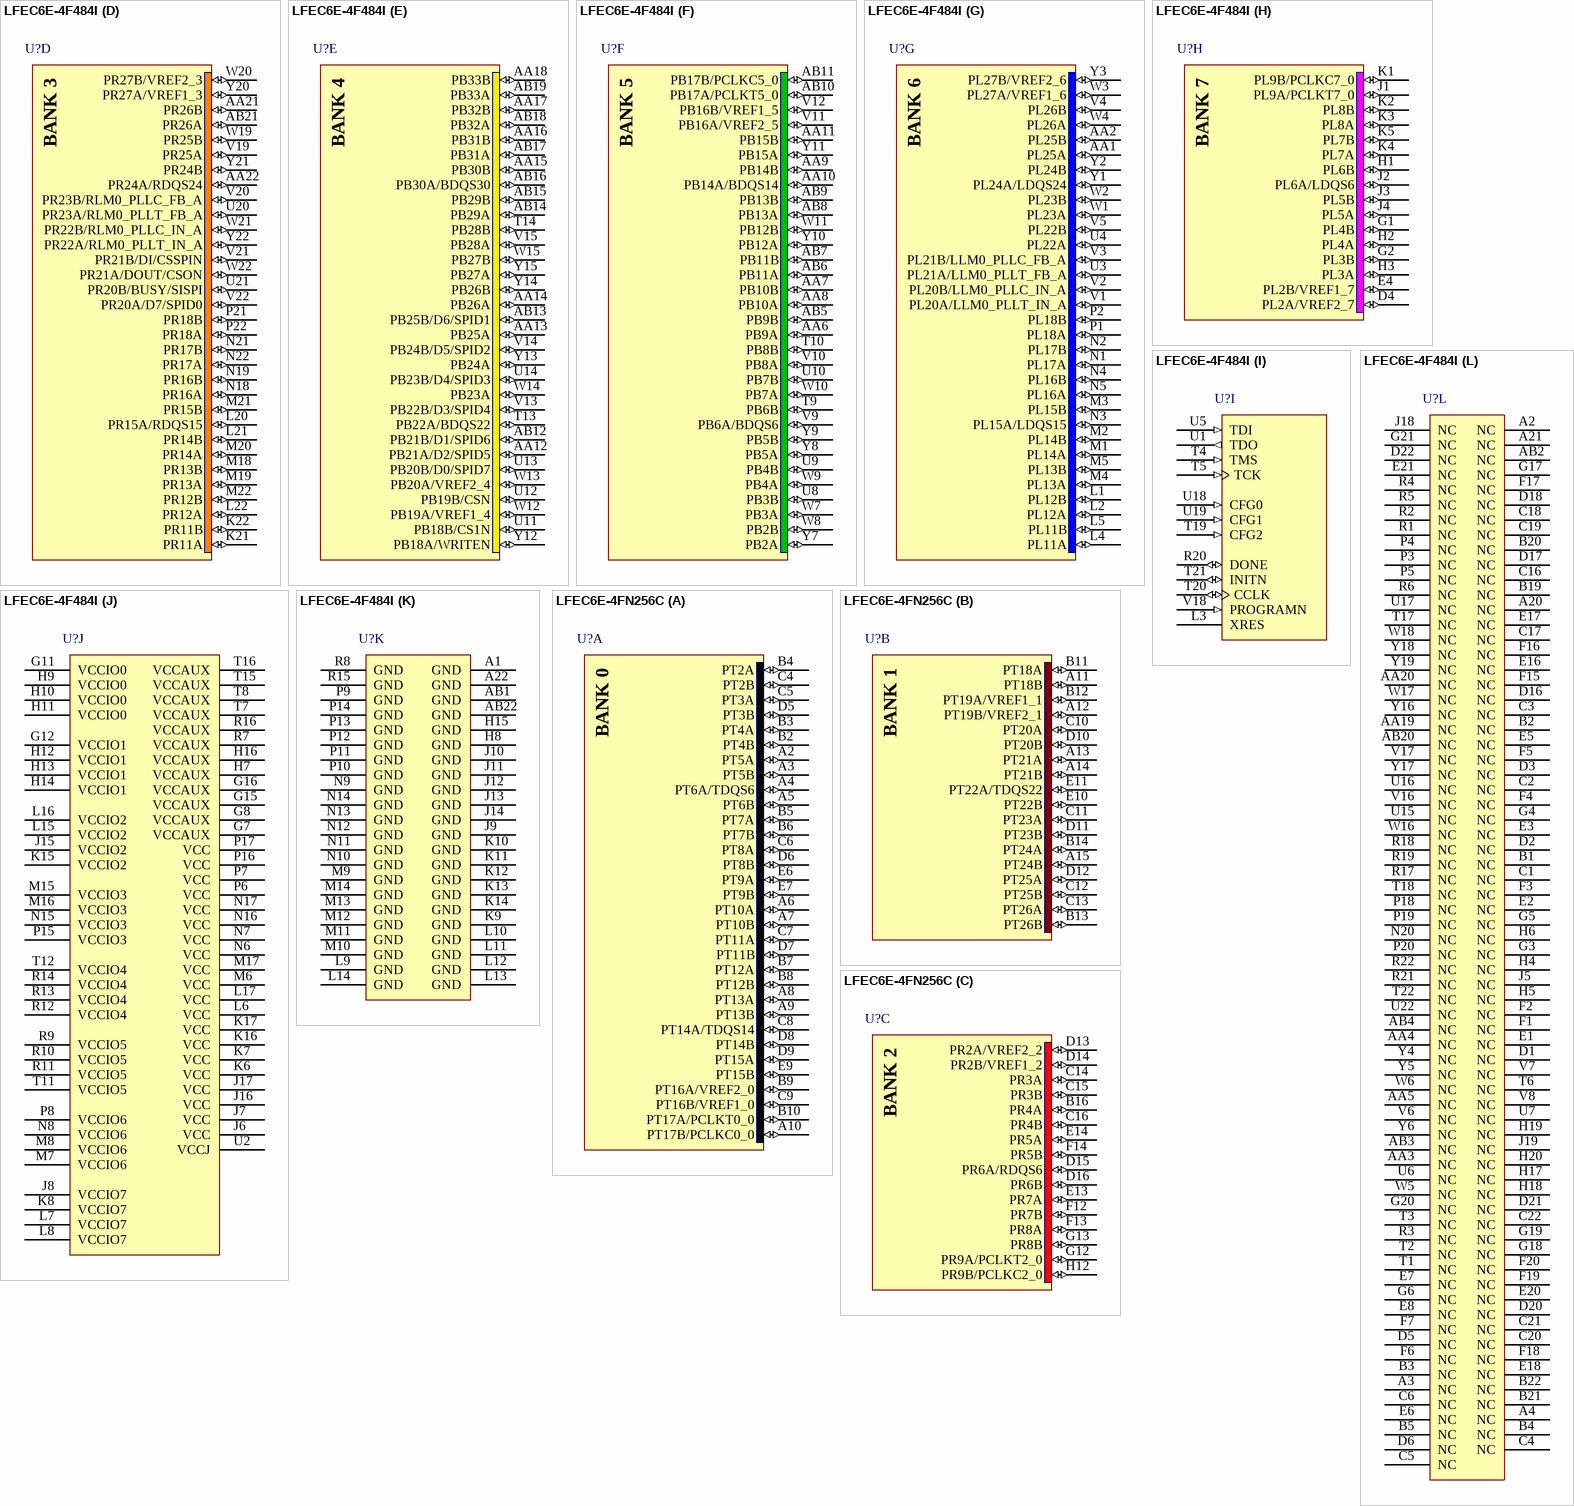
[diagram p56: symbols LFEC6E-4F484I to LFEC6E-4FN256C]

## LFEC6E-4F484I
designator U?
EC 1.2V FPGA, 224 I/Os, 2 PLLs, 6.1K LUTs, 484-Pin fpBGA, Speed Grade 4, Industrial Temperature Grade; Published: 4-Mar-2005; LatestRevisionDate: 13-Apr-2006; LatestRevisionNote: IPC-7351 Footprint Added.; DatasheetVersion: ver2.2, Mar-2006; PackageVersion: pkg_33, Apr-2006; PackageReference: fpBGA484; Publisher: Altium Limited; PackageDescription: 484-Ball Fine Pitch Ball Grid Array (fpBGA484); Code_IPC: BGA100P22X22-484; ComponentLink1Description: Manufacturer Link; ComponentLink1URL: http://www.latticesemi.com/products/fpga/ecpec/index.cfm; ComponentLink2Description: Datasheet; ComponentLink2URL: http://www.latticesemi.com/lit/docs/datasheets/fpga/ecp_ec_datasheet.pdf; ComponentLink3Description: Packaging Specification; ComponentLink3URL: http://www.latticesemi.com/lit/docs/package/pkg.pdf; ComponentLink4Description: Lattice Login; ComponentLink4URL: http://www.latticesemi.com/account/login.cfm
footprint fpBGA484 (BGA, 484-Leads, Body 23x23mm, Pitch 1mm)
3D model EC6E-fpBGA484 (484-Ball Fine Pitch Ball Grid Array (fpBGA484))
part A pins: A5 PT9B (io), A6 PT11A (io), A7 PT11B (io), A8 PT13A (io), A9 PT13B (io), A10 PT17A/PCLKT0_0 (io), A11 PT17B/PCLKC0_0 (io), B6 PT9A (io), B7 PT10B (io), B8 PT10A (io), B9 PT14B (io), B10 PT14A/TDQS14 (io), B11 PT15B (io), C7 PT2A (io), C8 PT5A (io), C9 PT5B (io), C10 PT12A (io), C11 PT15A (io), D7 PT3A (io), D8 PT2B (io), D9 PT4A (io), D10 PT7A (io), D11 PT12B (io), E9 PT6A/TDQS6 (io), E10 PT8A (io), E11 PT16A/VREF2_0 (io), E12 PT16B/VREF1_0 (io), F8 PT3B (io), F9 PT4B (io), F10 PT7B (io), G9 PT6B (io), G10 PT8B (io)
part B pins: A12 PT21B (io), A13 PT25B (io), A14 PT29A (io), A15 PT29B (io), A16 PT30A/TDQS30 (io), A17 PT31A (io), A18 PT32A (io), A19 PT33A (io), B12 PT21A (io), B13 PT25A (io), B14 PT26A (io), B15 PT30B (io), B16 PT31B (io), B17 PT32B (io), B18 PT33B (io), C12 PT18A (io), C13 PT24A (io), C14 PT26B (io), C15 PT27A (io), D12 PT19A/VREF1_1 (io), D13 PT20A (io), D14 PT23A (io), D15 PT27B (io), E13 PT22B (io), E14 PT24B (io), E15 PT28A (io), F11 PT18B (io), F12 PT19B/VREF2_1 (io), F13 PT20B (io), F14 PT23B (io), G13 PT22A/TDQS22 (io), G14 PT28B (io)
part C pins: D19 PR2A/VREF2_2 (io), E19 PR2B/VREF1_2 (io), E22 PR3A (io), F21 PR3B (io), F22 PR4A (io), G22 PR4B (io), H21 PR8A (io), H22 PR8B (io), J20 PR6A/RDQS6 (io), J21 PR9A/PCLKT2_0 (io), J22 PR9B/PCLKC2_0 (io), K18 PR5A (io), K19 PR5B (io), K20 PR6B (io), L18 PR7A (io), L19 PR7B (io)
part D pins: AA21 PR26B (io), AA22 PR24A/RDQS24 (io), AB21 PR26A (io), K21 PR11A (io), K22 PR11B (io), L20 PR15A/RDQS15 (io), L21 PR14B (io), L22 PR12A (io), M18 PR13B (io), M19 PR13A (io), M20 PR14A (io), M21 PR15B (io), M22 PR12B (io), N18 PR16A (io), N19 PR16B (io), N21 PR17B (io), N22 PR17A (io), P21 PR18B (io), P22 PR18A (io), U20 PR23A/RLM0_PLLT_FB_A (io), U21 PR20B/BUSY/SISPI (io), V19 PR25A (io), V20 PR23B/RLM0_PLLC_FB_A (io), V21 PR21B/DI/CSSPIN (io), V22 PR20A/D7/SPID0 (io), W19 PR25B (io), W20 PR27B/VREF2_3 (io), W21 PR22B/RLM0_PLLC_IN_A (io), W22 PR21A/DOUT/CSON (io), Y20 PR27A/VREF1_3 (io), Y21 PR24B (io), Y22 PR22A/RLM0_PLLT_IN_A (io)
part E pins: AA12 PB21A/D2/SPID5 (io), AA13 PB25A (io), AA14 PB26A (io), AA15 PB30B (io), AA16 PB31B (io), AA17 PB32B (io), AA18 PB33B (io), AB12 PB21B/D1/SPID6 (io), AB13 PB25B/D6/SPID1 (io), AB14 PB29A (io), AB15 PB29B (io), AB16 PB30A/BDQS30 (io), AB17 PB31A (io), AB18 PB32A (io), AB19 PB33A (io), T13 PB22A/BDQS22 (io), T14 PB28B (io), U11 PB18B/CS1N (io), U12 PB19B/CSN (io), U13 PB20B/D0/SPID7 (io), U14 PB23B/D4/SPID3 (io), V13 PB22B/D3/SPID4 (io), V14 PB24B/D5/SPID2 (io), V15 PB28A (io), W12 PB19A/VREF1_4 (io), W13 PB20A/VREF2_4 (io), W14 PB23A (io), W15 PB27B (io), Y12 PB18A/WRITEN (io), Y13 PB24A (io), Y14 PB26B (io), Y15 PB27A (io)
part F pins: AA6 PB9A (io), AA7 PB10B (io), AA8 PB10A (io), AA9 PB14B (io), AA10 PB14A/BDQS14 (io), AA11 PB15B (io), AB5 PB9B (io), AB6 PB11A (io), AB7 PB11B (io), AB8 PB13A (io), AB9 PB13B (io), AB10 PB17A/PCLKT5_0 (io), AB11 PB17B/PCLKC5_0 (io), T9 PB6B (io), T10 PB8B (io), U8 PB3B (io), U9 PB4B (io), U10 PB7B (io), V9 PB6A/BDQS6 (io), V10 PB8A (io), V11 PB16A/VREF2_5 (io), V12 PB16B/VREF1_5 (io), W7 PB3A (io), W8 PB2B (io), W9 PB4A (io), W10 PB7A (io), W11 PB12B (io), Y7 PB2A (io), Y8 PB5A (io), Y9 PB5B (io), Y10 PB12A (io), Y11 PB15A (io)
part G pins: AA1 PL25A (io), AA2 PL25B (io), L1 PL12B (io), L2 PL12A (io), L4 PL11A (io), L5 PL11B (io), M1 PL14A (io), M2 PL14B (io), M3 PL15B (io), M4 PL13A (io), M5 PL13B (io), N1 PL17A (io), N2 PL17B (io), N3 PL15A/LDQS15 (io), N4 PL16B (io), N5 PL16A (io), P1 PL18A (io), P2 PL18B (io), U3 PL21A/LLM0_PLLT_FB_A (io), U4 PL22A (io), V1 PL20A/LLM0_PLLT_IN_A (io), V2 PL20B/LLM0_PLLC_IN_A (io), V3 PL21B/LLM0_PLLC_FB_A (io), V4 PL26B (io), V5 PL22B (io), W1 PL23A (io), W2 PL23B (io), W3 PL27A/VREF1_6 (io), W4 PL26A (io), Y1 PL24A/LDQS24 (io), Y2 PL24B (io), Y3 PL27B/VREF2_6 (io)
part H pins: D4 PL2A/VREF2_7 (io), E4 PL2B/VREF1_7 (io), G1 PL4B (io), G2 PL3B (io), H1 PL6B (io), H2 PL4A (io), H3 PL3A (io), J1 PL9A/PCLKT7_0 (io), J2 PL6A/LDQS6 (io), J3 PL5B (io), J4 PL5A (io), K1 PL9B/PCLKC7_0 (io), K2 PL8B (io), K3 PL8A (io), K4 PL7A (io), K5 PL7B (io)
part I pins: L3 XRES, R20 DONE (io), T4 TMS (in), T5 TCK (in), T19 CFG2 (in), T20 CCLK (io), T21 INITN (io), U1 TDO (out), U5 TDI (in), U18 CFG0 (in), U19 CFG1 (in), V18 PROGRAMN (in)
part J pins: G7 VCCAUX (power), G8 VCCAUX (power), G11 VCCIO0 (power), G12 VCCIO1 (power), G15 VCCAUX (power), G16 VCCAUX (power), H7 VCCAUX (power), H9 VCCIO0 (power), H10 VCCIO0 (power), H11 VCCIO0 (power), H12 VCCIO1 (power), H13 VCCIO1 (power), H14 VCCIO1 (power), H16 VCCAUX (power), J6 VCC (power), J7 VCC (power), J8 VCCIO7 (power), J15 VCCIO2 (power), J16 VCC (power), J17 VCC (power), K6 VCC (power), K7 VCC (power), K8 VCCIO7 (power), K15 VCCIO2 (power), K16 VCC (power), K17 VCC (power), L6 VCC (power), L7 VCCIO7 (power), L8 VCCIO7 (power), L15 VCCIO2 (power), L16 VCCIO2 (power), L17 VCC (power), M6 VCC (power), M7 VCCIO6 (power), M8 VCCIO6 (power), M15 VCCIO3 (power), M16 VCCIO3 (power), M17 VCC (power), N6 VCC (power), N7 VCC (power), N8 VCCIO6 (power), N15 VCCIO3 (power), N16 VCC (power), N17 VCC (power), P6 VCC (power), P7 VCC (power), P8 VCCIO6 (power), P15 VCCIO3 (power), P16 VCC (power), P17 VCC (power), R7 VCCAUX (power), R9 VCCIO5 (power), R10 VCCIO5 (power), R11 VCCIO5 (power), R12 VCCIO4 (power), R13 VCCIO4 (power), R14 VCCIO4 (power), R16 VCCAUX (power), T7 VCCAUX (power), T8 VCCAUX (power), T11 VCCIO5 (power), T12 VCCIO4 (power), T15 VCCAUX (power), T16 VCCAUX (power), U2 VCCJ (power)
part K pins: A1 GND (power), A22 GND (power), AB1 GND (power), AB22 GND (power), H8 GND (power), H15 GND (power), J9 GND (power), J10 GND (power), J11 GND (power), J12 GND (power), J13 GND (power), J14 GND (power), K9 GND (power), K10 GND (power), K11 GND (power), K12 GND (power), K13 GND (power), K14 GND (power), L9 GND (power), L10 GND (power), L11 GND (power), L12 GND (power), L13 GND (power), L14 GND (power), M9 GND (power), M10 GND (power), M11 GND (power), M12 GND (power), M13 GND (power), M14 GND (power), N9 GND (power), N10 GND (power), N11 GND (power), N12 GND (power), N13 GND (power), N14 GND (power), P9 GND (power), P10 GND (power), P11 GND (power), P12 GND (power), P13 GND (power), P14 GND (power), R8 GND (power), R15 GND (power)
part L pins: A2 NC, A3 NC, A4 NC, A20 NC, A21 NC, AA3 NC, AA4 NC, AA5 NC, AA19 NC, AA20 NC, AB2 NC, AB3 NC, AB4 NC, AB20 NC, B1 NC, B2 NC, B3 NC, B4 NC, B5 NC, B19 NC, B20 NC, B21 NC, B22 NC, C1 NC, C2 NC, C3 NC, C4 NC, C5 NC, C6 NC, C16 NC, C17 NC, C18 NC, C19 NC, C20 NC, C21 NC, C22 NC, D1 NC, D2 NC, D3 NC, D5 NC, D6 NC, D16 NC, D17 NC, D18 NC, D20 NC, D21 NC, D22 NC, E1 NC, E2 NC, E3 NC, E5 NC, E6 NC, E7 NC, E8 NC, E16 NC, E17 NC, E18 NC, E20 NC, E21 NC, F1 NC, F2 NC, F3 NC, F4 NC, F5 NC, F6 NC, F7 NC, F15 NC, F16 NC, F17 NC, F18 NC, F19 NC, F20 NC, G3 NC, G4 NC, G5 NC, G6 NC, G17 NC, G18 NC, G19 NC, G20 NC, G21 NC, H4 NC, H5 NC, H6 NC, H17 NC, H18 NC, H19 NC, H20 NC, J5 NC, J18 NC, J19 NC, N20 NC, P3 NC, P4 NC, P5 NC, P18 NC, P19 NC, P20 NC, R1 NC, R2 NC, R3 NC, R4 NC, R5 NC, R6 NC, R17 NC, R18 NC, R19 NC, R21 NC, R22 NC, T1 NC, T2 NC, T3 NC, T6 NC, T17 NC, T18 NC, T22 NC, U6 NC, U7 NC, U15 NC, U16 NC, U17 NC, U22 NC, V6 NC, V7 NC, V8 NC, V16 NC, V17 NC, W5 NC, W6 NC, W16 NC, W17 NC, W18 NC, Y4 NC, Y5 NC, Y6 NC, Y16 NC, Y17 NC, Y18 NC, Y19 NC
part A text: BANK 0
part B text: BANK 1
part C text: BANK 2
part D text: BANK 3
part E text: BANK 4
part F text: BANK 5
part G text: BANK 6
part H text: BANK 7

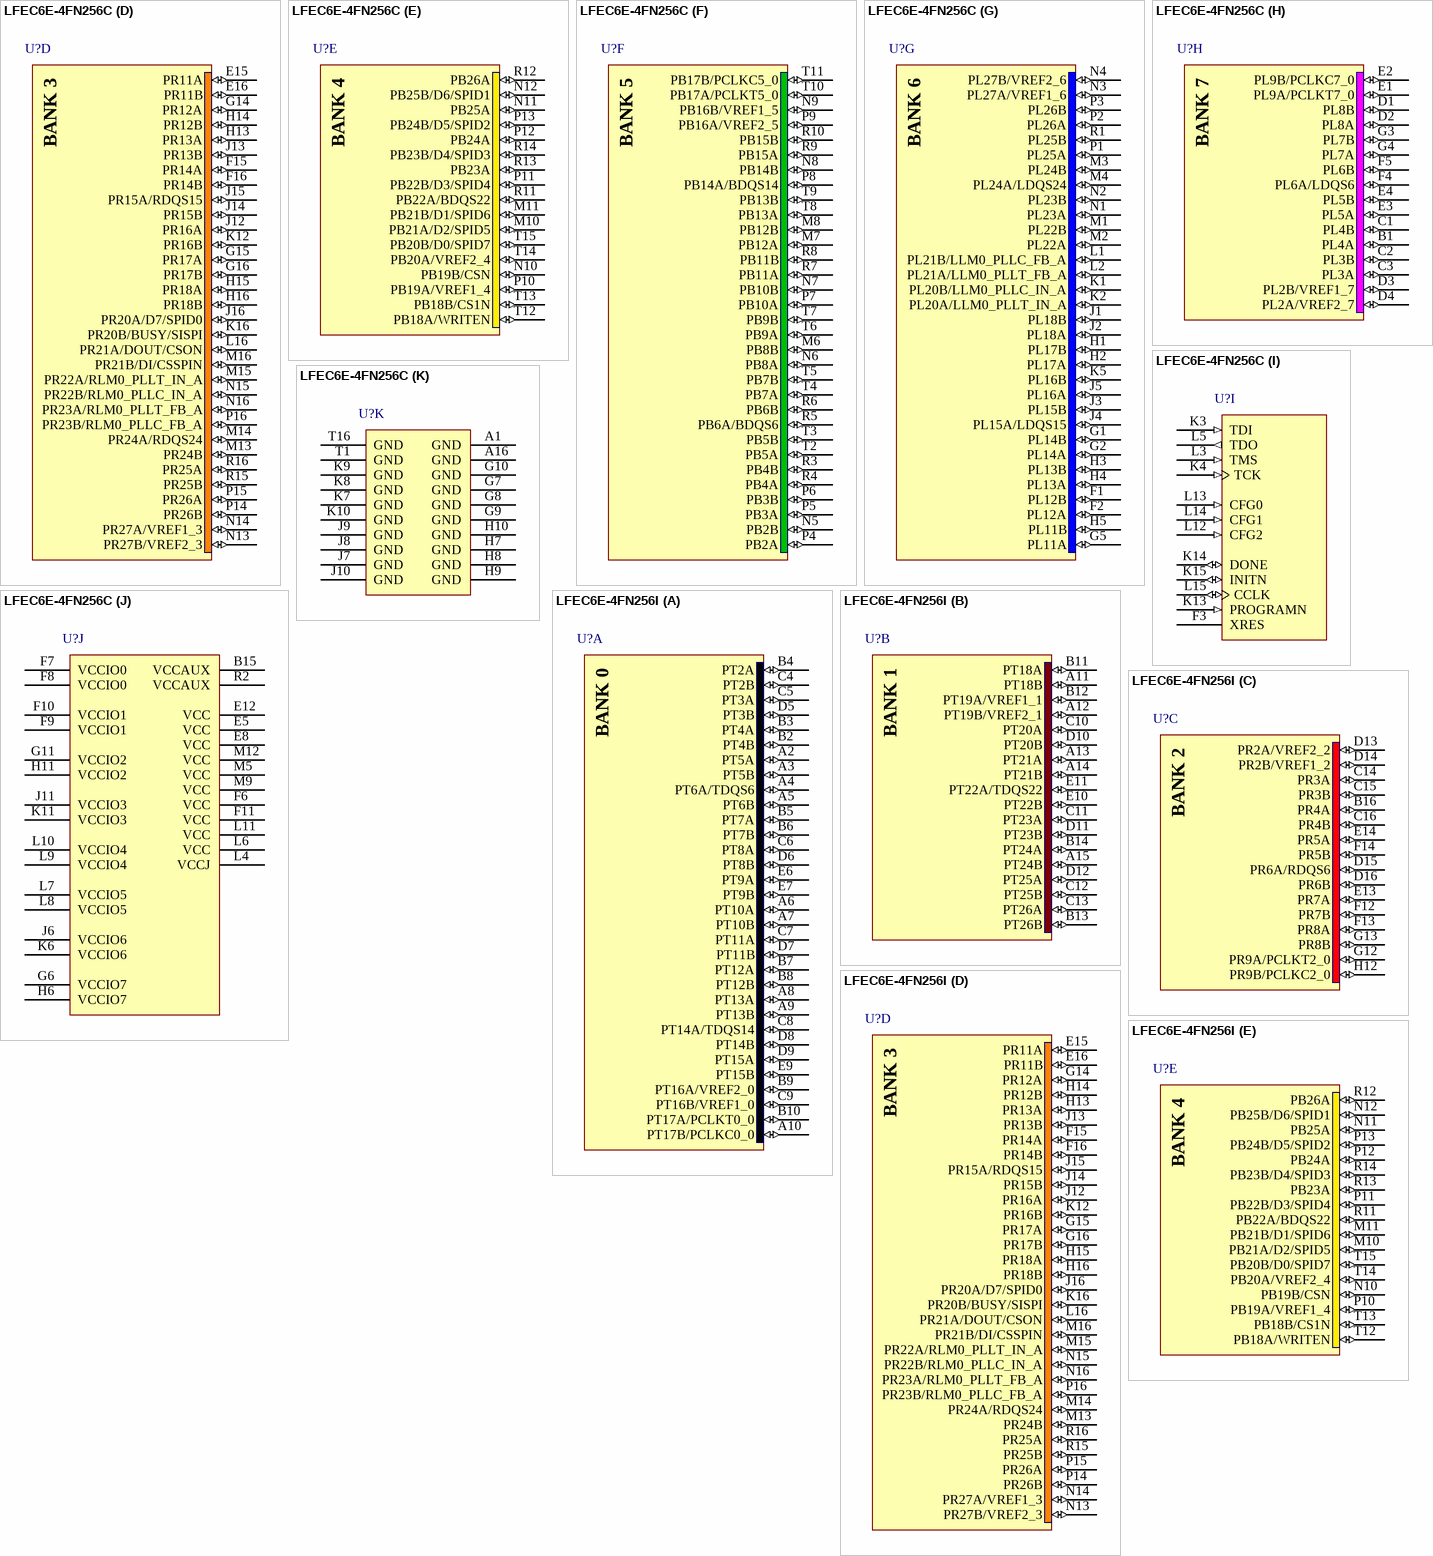
[diagram p57: symbols LFEC6E-4FN256C to LFEC6E-4FN256I]

## LFEC6E-4FN256C
designator U?
EC 1.2V FPGA, 195 I/Os, 2 PLLs, 6.1K LUTs, 256-Pin fpBGA, Pb-Free, Speed Grade 4, Commercial Temperature Grade; Published: 4-Mar-2005; LatestRevisionDate: 13-Apr-2006; LatestRevisionNote: IPC-7351 Footprint Added.; DatasheetVersion: ver2.2, Mar-2006; PackageVersion: pkg_33, Apr-2006; PackageReference: fpBGA256; Publisher: Altium Limited; PackageDescription: 256-Ball Fine Pitch Ball Grid Array (fpBGA256); Code_IPC: BGA100P16X16-256; ComponentLink1Description: Manufacturer Link; ComponentLink1URL: http://www.latticesemi.com/products/fpga/ecpec/index.cfm; ComponentLink2Description: Datasheet; ComponentLink2URL: http://www.latticesemi.com/lit/docs/datasheets/fpga/ecp_ec_datasheet.pdf; ComponentLink3Description: Packaging Specification; ComponentLink3URL: http://www.latticesemi.com/lit/docs/package/pkg.pdf; ComponentLink4Description: Lattice Login; ComponentLink4URL: http://www.latticesemi.com/account/login.cfm
footprint fpBGA256 (BGA, 256-Leads, Body 17x17mm, Pitch 1mm)
3D model EC6E-fpBGA256 (256-Ball Fine Pitch Ball Grid Array (fpBGA256))
part A pins: A2 PT5A (io), A3 PT5B (io), A4 PT6A/TDQS6 (io), A5 PT6B (io), A6 PT10A (io), A7 PT10B (io), A8 PT13A (io), A9 PT13B (io), A10 PT17B/PCLKC0_0 (io), B2 PT4B (io), B3 PT4A (io), B4 PT2A (io), B5 PT7A (io), B6 PT7B (io), B7 PT12A (io), B8 PT12B (io), B9 PT16A/VREF2_0 (io), B10 PT17A/PCLKT0_0 (io), C4 PT2B (io), C5 PT3A (io), C6 PT8A (io), C7 PT11A (io), C8 PT14A/TDQS14 (io), C9 PT16B/VREF1_0 (io), D5 PT3B (io), D6 PT8B (io), D7 PT11B (io), D8 PT14B (io), D9 PT15A (io), E6 PT9A (io), E7 PT9B (io), E9 PT15B (io)
part B pins: A11 PT18B (io), A12 PT19B/VREF2_1 (io), A13 PT21A (io), A14 PT21B (io), A15 PT24B (io), B11 PT18A (io), B12 PT19A/VREF1_1 (io), B13 PT26B (io), B14 PT24A (io), C10 PT20A (io), C11 PT23A (io), C12 PT25B (io), C13 PT26A (io), D10 PT20B (io), D11 PT23B (io), D12 PT25A (io), E10 PT22B (io), E11 PT22A/TDQS22 (io)
part C pins: B16 PR4A (io), C14 PR3A (io), C15 PR3B (io), C16 PR4B (io), D13 PR2A/VREF2_2 (io), D14 PR2B/VREF1_2 (io), D15 PR6A/RDQS6 (io), D16 PR6B (io), E13 PR7A (io), E14 PR5A (io), F12 PR7B (io), F13 PR8A (io), F14 PR5B (io), G12 PR9A/PCLKT2_0 (io), G13 PR8B (io), H12 PR9B/PCLKC2_0 (io)
part D pins: E15 PR11A (io), E16 PR11B (io), F15 PR14A (io), F16 PR14B (io), G14 PR12A (io), G15 PR17A (io), G16 PR17B (io), H13 PR13A (io), H14 PR12B (io), H15 PR18A (io), H16 PR18B (io), J12 PR16A (io), J13 PR13B (io), J14 PR15B (io), J15 PR15A/RDQS15 (io), J16 PR20A/D7/SPID0 (io), K12 PR16B (io), K16 PR20B/BUSY/SISPI (io), L16 PR21A/DOUT/CSON (io), M13 PR24B (io), M14 PR24A/RDQS24 (io), M15 PR22A/RLM0_PLLT_IN_A (io), M16 PR21B/DI/CSSPIN (io), N13 PR27B/VREF2_3 (io), N14 PR27A/VREF1_3 (io), N15 PR22B/RLM0_PLLC_IN_A (io), N16 PR23A/RLM0_PLLT_FB_A (io), P14 PR26B (io), P15 PR26A (io), P16 PR23B/RLM0_PLLC_FB_A (io), R15 PR25B (io), R16 PR25A (io)
part E pins: M10 PB21A/D2/SPID5 (io), M11 PB21B/D1/SPID6 (io), N10 PB19B/CSN (io), N11 PB25A (io), N12 PB25B/D6/SPID1 (io), P10 PB19A/VREF1_4 (io), P11 PB22B/D3/SPID4 (io), P12 PB24A (io), P13 PB24B/D5/SPID2 (io), R11 PB22A/BDQS22 (io), R12 PB26A (io), R13 PB23A (io), R14 PB23B/D4/SPID3 (io), T12 PB18A/WRITEN (io), T13 PB18B/CS1N (io), T14 PB20A/VREF2_4 (io), T15 PB20B/D0/SPID7 (io)
part F pins: M6 PB8B (io), M7 PB12A (io), M8 PB12B (io), N5 PB2B (io), N6 PB8A (io), N7 PB10B (io), N8 PB14B (io), N9 PB16B/VREF1_5 (io), P4 PB2A (io), P5 PB3A (io), P6 PB3B (io), P7 PB10A (io), P8 PB14A/BDQS14 (io), P9 PB16A/VREF2_5 (io), R3 PB4B (io), R4 PB4A (io), R5 PB6A/BDQS6 (io), R6 PB6B (io), R7 PB11A (io), R8 PB11B (io), R9 PB15A (io), R10 PB15B (io), T2 PB5A (io), T3 PB5B (io), T4 PB7A (io), T5 PB7B (io), T6 PB9A (io), T7 PB9B (io), T8 PB13A (io), T9 PB13B (io), T10 PB17A/PCLKT5_0 (io), T11 PB17B/PCLKC5_0 (io)
part G pins: F1 PL12B (io), F2 PL12A (io), G1 PL14B (io), G2 PL14A (io), G5 PL11A (io), H1 PL17B (io), H2 PL17A (io), H3 PL13B (io), H4 PL13A (io), H5 PL11B (io), J1 PL18B (io), J2 PL18A (io), J3 PL15B (io), J4 PL15A/LDQS15 (io), J5 PL16A (io), K1 PL20B/LLM0_PLLC_IN_A (io), K2 PL20A/LLM0_PLLT_IN_A (io), K5 PL16B (io), L1 PL21B/LLM0_PLLC_FB_A (io), L2 PL21A/LLM0_PLLT_FB_A (io), M1 PL22B (io), M2 PL22A (io), M3 PL24B (io), M4 PL24A/LDQS24 (io), N1 PL23A (io), N2 PL23B (io), N3 PL27A/VREF1_6 (io), N4 PL27B/VREF2_6 (io), P1 PL25A (io), P2 PL26A (io), P3 PL26B (io), R1 PL25B (io)
part H pins: B1 PL4A (io), C1 PL4B (io), C2 PL3B (io), C3 PL3A (io), D1 PL8B (io), D2 PL8A (io), D3 PL2B/VREF1_7 (io), D4 PL2A/VREF2_7 (io), E1 PL9A/PCLKT7_0 (io), E2 PL9B/PCLKC7_0 (io), E3 PL5A (io), E4 PL5B (io), F4 PL6A/LDQS6 (io), F5 PL6B (io), G3 PL7B (io), G4 PL7A (io)
part I pins: F3 XRES, K3 TDI (in), K4 TCK (in), K13 PROGRAMN (in), K14 DONE (io), K15 INITN (io), L3 TMS (in), L5 TDO (out), L12 CFG2 (in), L13 CFG0 (in), L14 CFG1 (in), L15 CCLK (io)
part J pins: B15 VCCAUX (power), E5 VCC (power), E8 VCC (power), E12 VCC (power), F6 VCC (power), F7 VCCIO0 (power), F8 VCCIO0 (power), F9 VCCIO1 (power), F10 VCCIO1 (power), F11 VCC (power), G6 VCCIO7 (power), G11 VCCIO2 (power), H6 VCCIO7 (power), H11 VCCIO2 (power), J6 VCCIO6 (power), J11 VCCIO3 (power), K6 VCCIO6 (power), K11 VCCIO3 (power), L4 VCCJ (power), L6 VCC (power), L7 VCCIO5 (power), L8 VCCIO5 (power), L9 VCCIO4 (power), L10 VCCIO4 (power), L11 VCC (power), M5 VCC (power), M9 VCC (power), M12 VCC (power), R2 VCCAUX (power)
part K pins: A1 GND (power), A16 GND (power), G7 GND (power), G8 GND (power), G9 GND (power), G10 GND (power), H7 GND (power), H8 GND (power), H9 GND (power), H10 GND (power), J7 GND (power), J8 GND (power), J9 GND (power), J10 GND (power), K7 GND (power), K8 GND (power), K9 GND (power), K10 GND (power), T1 GND (power), T16 GND (power)
part A text: BANK 0
part B text: BANK 1
part C text: BANK 2
part D text: BANK 3
part E text: BANK 4
part F text: BANK 5
part G text: BANK 6
part H text: BANK 7

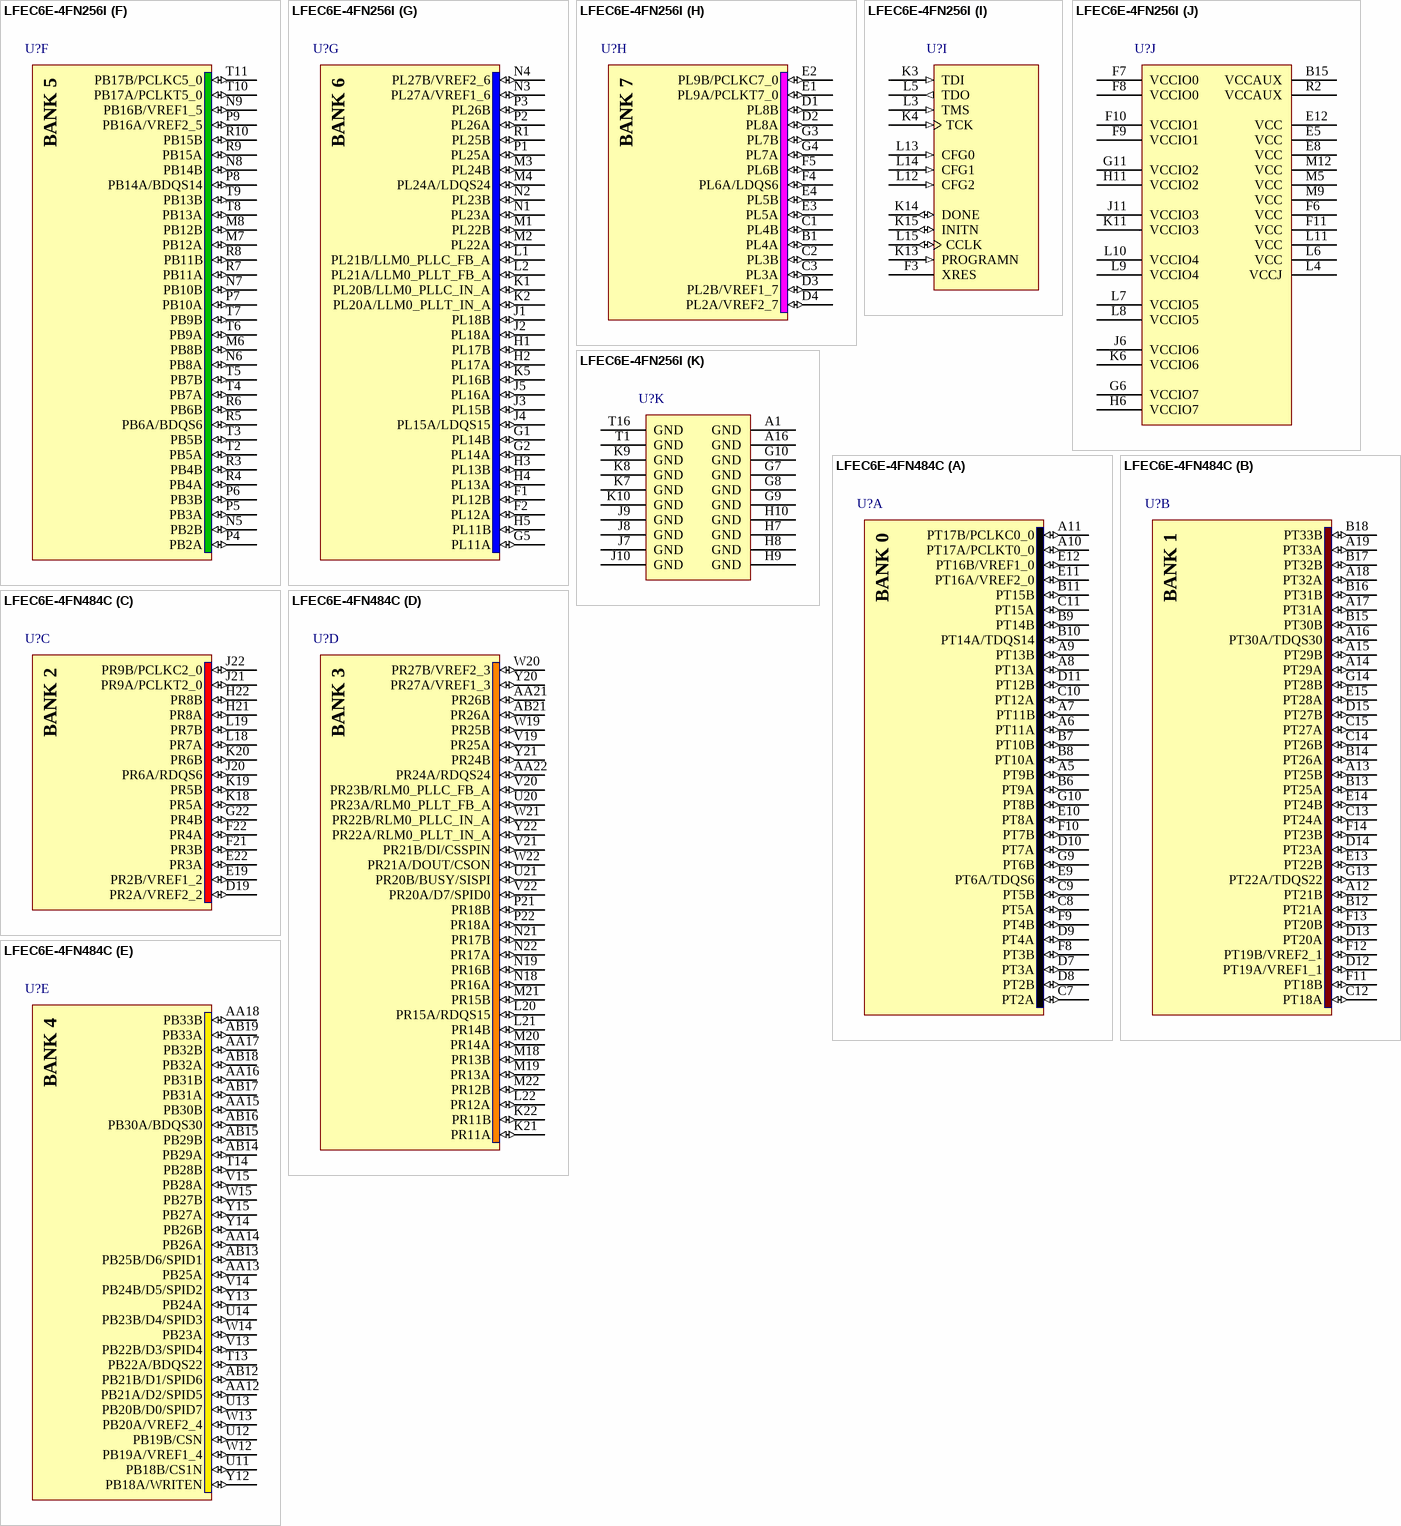
[diagram p58: symbols LFEC6E-4FN256I to LFEC6E-4FN484C]

## LFEC6E-4FN256I
designator U?
EC 1.2V FPGA, 195 I/Os, 2 PLLs, 6.1K LUTs, 256-Pin fpBGA, Pb-Free, Speed Grade 4, Industrial Temperature Grade; Published: 4-Mar-2005; LatestRevisionDate: 13-Apr-2006; LatestRevisionNote: IPC-7351 Footprint Added.; DatasheetVersion: ver2.2, Mar-2006; PackageVersion: pkg_33, Apr-2006; PackageReference: fpBGA256; Publisher: Altium Limited; PackageDescription: 256-Ball Fine Pitch Ball Grid Array (fpBGA256); Code_IPC: BGA100P16X16-256; ComponentLink1Description: Manufacturer Link; ComponentLink1URL: http://www.latticesemi.com/products/fpga/ecpec/index.cfm; ComponentLink2Description: Datasheet; ComponentLink2URL: http://www.latticesemi.com/lit/docs/datasheets/fpga/ecp_ec_datasheet.pdf; ComponentLink3Description: Packaging Specification; ComponentLink3URL: http://www.latticesemi.com/lit/docs/package/pkg.pdf; ComponentLink4Description: Lattice Login; ComponentLink4URL: http://www.latticesemi.com/account/login.cfm
footprint fpBGA256 (BGA, 256-Leads, Body 17x17mm, Pitch 1mm)
3D model EC6E-fpBGA256 (256-Ball Fine Pitch Ball Grid Array (fpBGA256))
part A pins: A2 PT5A (io), A3 PT5B (io), A4 PT6A/TDQS6 (io), A5 PT6B (io), A6 PT10A (io), A7 PT10B (io), A8 PT13A (io), A9 PT13B (io), A10 PT17B/PCLKC0_0 (io), B2 PT4B (io), B3 PT4A (io), B4 PT2A (io), B5 PT7A (io), B6 PT7B (io), B7 PT12A (io), B8 PT12B (io), B9 PT16A/VREF2_0 (io), B10 PT17A/PCLKT0_0 (io), C4 PT2B (io), C5 PT3A (io), C6 PT8A (io), C7 PT11A (io), C8 PT14A/TDQS14 (io), C9 PT16B/VREF1_0 (io), D5 PT3B (io), D6 PT8B (io), D7 PT11B (io), D8 PT14B (io), D9 PT15A (io), E6 PT9A (io), E7 PT9B (io), E9 PT15B (io)
part B pins: A11 PT18B (io), A12 PT19B/VREF2_1 (io), A13 PT21A (io), A14 PT21B (io), A15 PT24B (io), B11 PT18A (io), B12 PT19A/VREF1_1 (io), B13 PT26B (io), B14 PT24A (io), C10 PT20A (io), C11 PT23A (io), C12 PT25B (io), C13 PT26A (io), D10 PT20B (io), D11 PT23B (io), D12 PT25A (io), E10 PT22B (io), E11 PT22A/TDQS22 (io)
part C pins: B16 PR4A (io), C14 PR3A (io), C15 PR3B (io), C16 PR4B (io), D13 PR2A/VREF2_2 (io), D14 PR2B/VREF1_2 (io), D15 PR6A/RDQS6 (io), D16 PR6B (io), E13 PR7A (io), E14 PR5A (io), F12 PR7B (io), F13 PR8A (io), F14 PR5B (io), G12 PR9A/PCLKT2_0 (io), G13 PR8B (io), H12 PR9B/PCLKC2_0 (io)
part D pins: E15 PR11A (io), E16 PR11B (io), F15 PR14A (io), F16 PR14B (io), G14 PR12A (io), G15 PR17A (io), G16 PR17B (io), H13 PR13A (io), H14 PR12B (io), H15 PR18A (io), H16 PR18B (io), J12 PR16A (io), J13 PR13B (io), J14 PR15B (io), J15 PR15A/RDQS15 (io), J16 PR20A/D7/SPID0 (io), K12 PR16B (io), K16 PR20B/BUSY/SISPI (io), L16 PR21A/DOUT/CSON (io), M13 PR24B (io), M14 PR24A/RDQS24 (io), M15 PR22A/RLM0_PLLT_IN_A (io), M16 PR21B/DI/CSSPIN (io), N13 PR27B/VREF2_3 (io), N14 PR27A/VREF1_3 (io), N15 PR22B/RLM0_PLLC_IN_A (io), N16 PR23A/RLM0_PLLT_FB_A (io), P14 PR26B (io), P15 PR26A (io), P16 PR23B/RLM0_PLLC_FB_A (io), R15 PR25B (io), R16 PR25A (io)
part E pins: M10 PB21A/D2/SPID5 (io), M11 PB21B/D1/SPID6 (io), N10 PB19B/CSN (io), N11 PB25A (io), N12 PB25B/D6/SPID1 (io), P10 PB19A/VREF1_4 (io), P11 PB22B/D3/SPID4 (io), P12 PB24A (io), P13 PB24B/D5/SPID2 (io), R11 PB22A/BDQS22 (io), R12 PB26A (io), R13 PB23A (io), R14 PB23B/D4/SPID3 (io), T12 PB18A/WRITEN (io), T13 PB18B/CS1N (io), T14 PB20A/VREF2_4 (io), T15 PB20B/D0/SPID7 (io)
part F pins: M6 PB8B (io), M7 PB12A (io), M8 PB12B (io), N5 PB2B (io), N6 PB8A (io), N7 PB10B (io), N8 PB14B (io), N9 PB16B/VREF1_5 (io), P4 PB2A (io), P5 PB3A (io), P6 PB3B (io), P7 PB10A (io), P8 PB14A/BDQS14 (io), P9 PB16A/VREF2_5 (io), R3 PB4B (io), R4 PB4A (io), R5 PB6A/BDQS6 (io), R6 PB6B (io), R7 PB11A (io), R8 PB11B (io), R9 PB15A (io), R10 PB15B (io), T2 PB5A (io), T3 PB5B (io), T4 PB7A (io), T5 PB7B (io), T6 PB9A (io), T7 PB9B (io), T8 PB13A (io), T9 PB13B (io), T10 PB17A/PCLKT5_0 (io), T11 PB17B/PCLKC5_0 (io)
part G pins: F1 PL12B (io), F2 PL12A (io), G1 PL14B (io), G2 PL14A (io), G5 PL11A (io), H1 PL17B (io), H2 PL17A (io), H3 PL13B (io), H4 PL13A (io), H5 PL11B (io), J1 PL18B (io), J2 PL18A (io), J3 PL15B (io), J4 PL15A/LDQS15 (io), J5 PL16A (io), K1 PL20B/LLM0_PLLC_IN_A (io), K2 PL20A/LLM0_PLLT_IN_A (io), K5 PL16B (io), L1 PL21B/LLM0_PLLC_FB_A (io), L2 PL21A/LLM0_PLLT_FB_A (io), M1 PL22B (io), M2 PL22A (io), M3 PL24B (io), M4 PL24A/LDQS24 (io), N1 PL23A (io), N2 PL23B (io), N3 PL27A/VREF1_6 (io), N4 PL27B/VREF2_6 (io), P1 PL25A (io), P2 PL26A (io), P3 PL26B (io), R1 PL25B (io)
part H pins: B1 PL4A (io), C1 PL4B (io), C2 PL3B (io), C3 PL3A (io), D1 PL8B (io), D2 PL8A (io), D3 PL2B/VREF1_7 (io), D4 PL2A/VREF2_7 (io), E1 PL9A/PCLKT7_0 (io), E2 PL9B/PCLKC7_0 (io), E3 PL5A (io), E4 PL5B (io), F4 PL6A/LDQS6 (io), F5 PL6B (io), G3 PL7B (io), G4 PL7A (io)
part I pins: F3 XRES, K3 TDI (in), K4 TCK (in), K13 PROGRAMN (in), K14 DONE (io), K15 INITN (io), L3 TMS (in), L5 TDO (out), L12 CFG2 (in), L13 CFG0 (in), L14 CFG1 (in), L15 CCLK (io)
part J pins: B15 VCCAUX (power), E5 VCC (power), E8 VCC (power), E12 VCC (power), F6 VCC (power), F7 VCCIO0 (power), F8 VCCIO0 (power), F9 VCCIO1 (power), F10 VCCIO1 (power), F11 VCC (power), G6 VCCIO7 (power), G11 VCCIO2 (power), H6 VCCIO7 (power), H11 VCCIO2 (power), J6 VCCIO6 (power), J11 VCCIO3 (power), K6 VCCIO6 (power), K11 VCCIO3 (power), L4 VCCJ (power), L6 VCC (power), L7 VCCIO5 (power), L8 VCCIO5 (power), L9 VCCIO4 (power), L10 VCCIO4 (power), L11 VCC (power), M5 VCC (power), M9 VCC (power), M12 VCC (power), R2 VCCAUX (power)
part K pins: A1 GND (power), A16 GND (power), G7 GND (power), G8 GND (power), G9 GND (power), G10 GND (power), H7 GND (power), H8 GND (power), H9 GND (power), H10 GND (power), J7 GND (power), J8 GND (power), J9 GND (power), J10 GND (power), K7 GND (power), K8 GND (power), K9 GND (power), K10 GND (power), T1 GND (power), T16 GND (power)
part A text: BANK 0
part B text: BANK 1
part C text: BANK 2
part D text: BANK 3
part E text: BANK 4
part F text: BANK 5
part G text: BANK 6
part H text: BANK 7

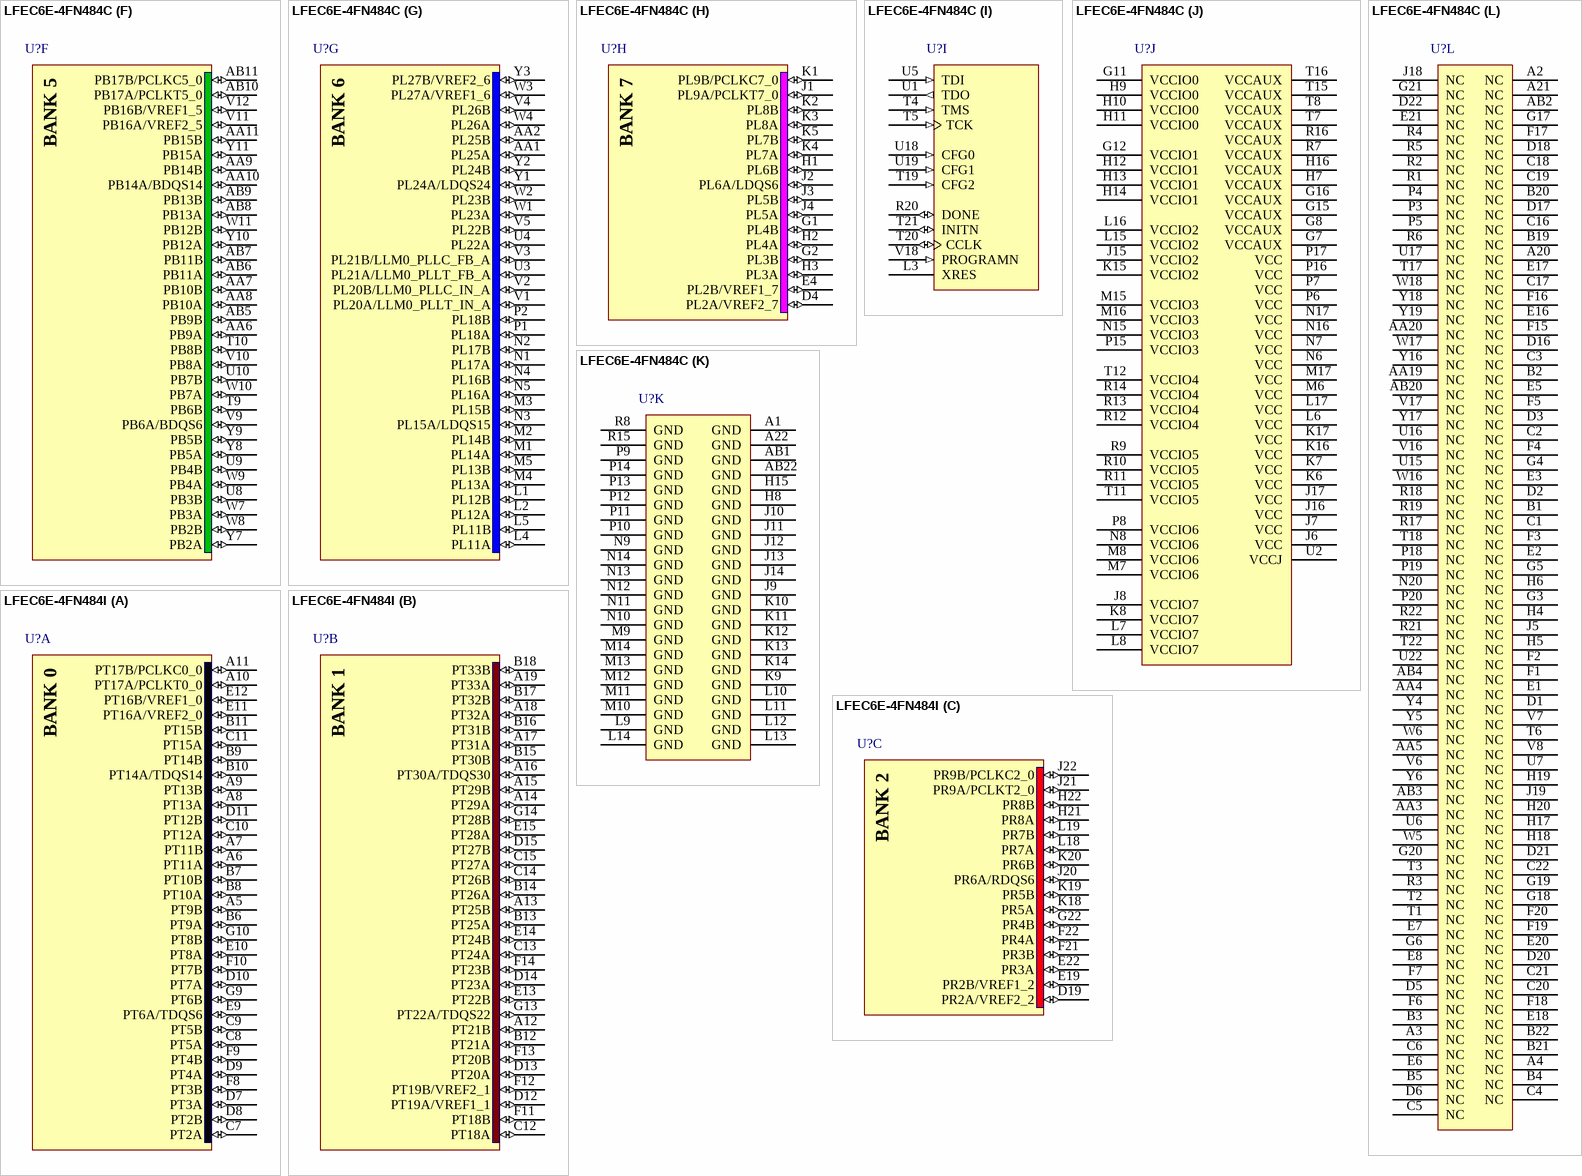
[diagram p59: symbols LFEC6E-4FN484C to LFEC6E-4FN484I]

## LFEC6E-4FN484C
designator U?
EC 1.2V FPGA, 224 I/Os, 2 PLLs, 6.1K LUTs, 484-Pin fpBGA, Pb-Free, Speed Grade 4, Commercial Temperature Grade; Published: 4-Mar-2005; LatestRevisionDate: 13-Apr-2006; LatestRevisionNote: IPC-7351 Footprint Added.; DatasheetVersion: ver2.2, Mar-2006; PackageVersion: pkg_33, Apr-2006; PackageReference: fpBGA484; Publisher: Altium Limited; PackageDescription: 484-Ball Fine Pitch Ball Grid Array (fpBGA484); Code_IPC: BGA100P22X22-484; ComponentLink1Description: Manufacturer Link; ComponentLink1URL: http://www.latticesemi.com/products/fpga/ecpec/index.cfm; ComponentLink2Description: Datasheet; ComponentLink2URL: http://www.latticesemi.com/lit/docs/datasheets/fpga/ecp_ec_datasheet.pdf; ComponentLink3Description: Packaging Specification; ComponentLink3URL: http://www.latticesemi.com/lit/docs/package/pkg.pdf; ComponentLink4Description: Lattice Login; ComponentLink4URL: http://www.latticesemi.com/account/login.cfm
footprint fpBGA484 (BGA, 484-Leads, Body 23x23mm, Pitch 1mm)
3D model EC6E-fpBGA484 (484-Ball Fine Pitch Ball Grid Array (fpBGA484))
part A pins: A5 PT9B (io), A6 PT11A (io), A7 PT11B (io), A8 PT13A (io), A9 PT13B (io), A10 PT17A/PCLKT0_0 (io), A11 PT17B/PCLKC0_0 (io), B6 PT9A (io), B7 PT10B (io), B8 PT10A (io), B9 PT14B (io), B10 PT14A/TDQS14 (io), B11 PT15B (io), C7 PT2A (io), C8 PT5A (io), C9 PT5B (io), C10 PT12A (io), C11 PT15A (io), D7 PT3A (io), D8 PT2B (io), D9 PT4A (io), D10 PT7A (io), D11 PT12B (io), E9 PT6A/TDQS6 (io), E10 PT8A (io), E11 PT16A/VREF2_0 (io), E12 PT16B/VREF1_0 (io), F8 PT3B (io), F9 PT4B (io), F10 PT7B (io), G9 PT6B (io), G10 PT8B (io)
part B pins: A12 PT21B (io), A13 PT25B (io), A14 PT29A (io), A15 PT29B (io), A16 PT30A/TDQS30 (io), A17 PT31A (io), A18 PT32A (io), A19 PT33A (io), B12 PT21A (io), B13 PT25A (io), B14 PT26A (io), B15 PT30B (io), B16 PT31B (io), B17 PT32B (io), B18 PT33B (io), C12 PT18A (io), C13 PT24A (io), C14 PT26B (io), C15 PT27A (io), D12 PT19A/VREF1_1 (io), D13 PT20A (io), D14 PT23A (io), D15 PT27B (io), E13 PT22B (io), E14 PT24B (io), E15 PT28A (io), F11 PT18B (io), F12 PT19B/VREF2_1 (io), F13 PT20B (io), F14 PT23B (io), G13 PT22A/TDQS22 (io), G14 PT28B (io)
part C pins: D19 PR2A/VREF2_2 (io), E19 PR2B/VREF1_2 (io), E22 PR3A (io), F21 PR3B (io), F22 PR4A (io), G22 PR4B (io), H21 PR8A (io), H22 PR8B (io), J20 PR6A/RDQS6 (io), J21 PR9A/PCLKT2_0 (io), J22 PR9B/PCLKC2_0 (io), K18 PR5A (io), K19 PR5B (io), K20 PR6B (io), L18 PR7A (io), L19 PR7B (io)
part D pins: AA21 PR26B (io), AA22 PR24A/RDQS24 (io), AB21 PR26A (io), K21 PR11A (io), K22 PR11B (io), L20 PR15A/RDQS15 (io), L21 PR14B (io), L22 PR12A (io), M18 PR13B (io), M19 PR13A (io), M20 PR14A (io), M21 PR15B (io), M22 PR12B (io), N18 PR16A (io), N19 PR16B (io), N21 PR17B (io), N22 PR17A (io), P21 PR18B (io), P22 PR18A (io), U20 PR23A/RLM0_PLLT_FB_A (io), U21 PR20B/BUSY/SISPI (io), V19 PR25A (io), V20 PR23B/RLM0_PLLC_FB_A (io), V21 PR21B/DI/CSSPIN (io), V22 PR20A/D7/SPID0 (io), W19 PR25B (io), W20 PR27B/VREF2_3 (io), W21 PR22B/RLM0_PLLC_IN_A (io), W22 PR21A/DOUT/CSON (io), Y20 PR27A/VREF1_3 (io), Y21 PR24B (io), Y22 PR22A/RLM0_PLLT_IN_A (io)
part E pins: AA12 PB21A/D2/SPID5 (io), AA13 PB25A (io), AA14 PB26A (io), AA15 PB30B (io), AA16 PB31B (io), AA17 PB32B (io), AA18 PB33B (io), AB12 PB21B/D1/SPID6 (io), AB13 PB25B/D6/SPID1 (io), AB14 PB29A (io), AB15 PB29B (io), AB16 PB30A/BDQS30 (io), AB17 PB31A (io), AB18 PB32A (io), AB19 PB33A (io), T13 PB22A/BDQS22 (io), T14 PB28B (io), U11 PB18B/CS1N (io), U12 PB19B/CSN (io), U13 PB20B/D0/SPID7 (io), U14 PB23B/D4/SPID3 (io), V13 PB22B/D3/SPID4 (io), V14 PB24B/D5/SPID2 (io), V15 PB28A (io), W12 PB19A/VREF1_4 (io), W13 PB20A/VREF2_4 (io), W14 PB23A (io), W15 PB27B (io), Y12 PB18A/WRITEN (io), Y13 PB24A (io), Y14 PB26B (io), Y15 PB27A (io)
part F pins: AA6 PB9A (io), AA7 PB10B (io), AA8 PB10A (io), AA9 PB14B (io), AA10 PB14A/BDQS14 (io), AA11 PB15B (io), AB5 PB9B (io), AB6 PB11A (io), AB7 PB11B (io), AB8 PB13A (io), AB9 PB13B (io), AB10 PB17A/PCLKT5_0 (io), AB11 PB17B/PCLKC5_0 (io), T9 PB6B (io), T10 PB8B (io), U8 PB3B (io), U9 PB4B (io), U10 PB7B (io), V9 PB6A/BDQS6 (io), V10 PB8A (io), V11 PB16A/VREF2_5 (io), V12 PB16B/VREF1_5 (io), W7 PB3A (io), W8 PB2B (io), W9 PB4A (io), W10 PB7A (io), W11 PB12B (io), Y7 PB2A (io), Y8 PB5A (io), Y9 PB5B (io), Y10 PB12A (io), Y11 PB15A (io)
part G pins: AA1 PL25A (io), AA2 PL25B (io), L1 PL12B (io), L2 PL12A (io), L4 PL11A (io), L5 PL11B (io), M1 PL14A (io), M2 PL14B (io), M3 PL15B (io), M4 PL13A (io), M5 PL13B (io), N1 PL17A (io), N2 PL17B (io), N3 PL15A/LDQS15 (io), N4 PL16B (io), N5 PL16A (io), P1 PL18A (io), P2 PL18B (io), U3 PL21A/LLM0_PLLT_FB_A (io), U4 PL22A (io), V1 PL20A/LLM0_PLLT_IN_A (io), V2 PL20B/LLM0_PLLC_IN_A (io), V3 PL21B/LLM0_PLLC_FB_A (io), V4 PL26B (io), V5 PL22B (io), W1 PL23A (io), W2 PL23B (io), W3 PL27A/VREF1_6 (io), W4 PL26A (io), Y1 PL24A/LDQS24 (io), Y2 PL24B (io), Y3 PL27B/VREF2_6 (io)
part H pins: D4 PL2A/VREF2_7 (io), E4 PL2B/VREF1_7 (io), G1 PL4B (io), G2 PL3B (io), H1 PL6B (io), H2 PL4A (io), H3 PL3A (io), J1 PL9A/PCLKT7_0 (io), J2 PL6A/LDQS6 (io), J3 PL5B (io), J4 PL5A (io), K1 PL9B/PCLKC7_0 (io), K2 PL8B (io), K3 PL8A (io), K4 PL7A (io), K5 PL7B (io)
part I pins: L3 XRES, R20 DONE (io), T4 TMS (in), T5 TCK (in), T19 CFG2 (in), T20 CCLK (io), T21 INITN (io), U1 TDO (out), U5 TDI (in), U18 CFG0 (in), U19 CFG1 (in), V18 PROGRAMN (in)
part J pins: G7 VCCAUX (power), G8 VCCAUX (power), G11 VCCIO0 (power), G12 VCCIO1 (power), G15 VCCAUX (power), G16 VCCAUX (power), H7 VCCAUX (power), H9 VCCIO0 (power), H10 VCCIO0 (power), H11 VCCIO0 (power), H12 VCCIO1 (power), H13 VCCIO1 (power), H14 VCCIO1 (power), H16 VCCAUX (power), J6 VCC (power), J7 VCC (power), J8 VCCIO7 (power), J15 VCCIO2 (power), J16 VCC (power), J17 VCC (power), K6 VCC (power), K7 VCC (power), K8 VCCIO7 (power), K15 VCCIO2 (power), K16 VCC (power), K17 VCC (power), L6 VCC (power), L7 VCCIO7 (power), L8 VCCIO7 (power), L15 VCCIO2 (power), L16 VCCIO2 (power), L17 VCC (power), M6 VCC (power), M7 VCCIO6 (power), M8 VCCIO6 (power), M15 VCCIO3 (power), M16 VCCIO3 (power), M17 VCC (power), N6 VCC (power), N7 VCC (power), N8 VCCIO6 (power), N15 VCCIO3 (power), N16 VCC (power), N17 VCC (power), P6 VCC (power), P7 VCC (power), P8 VCCIO6 (power), P15 VCCIO3 (power), P16 VCC (power), P17 VCC (power), R7 VCCAUX (power), R9 VCCIO5 (power), R10 VCCIO5 (power), R11 VCCIO5 (power), R12 VCCIO4 (power), R13 VCCIO4 (power), R14 VCCIO4 (power), R16 VCCAUX (power), T7 VCCAUX (power), T8 VCCAUX (power), T11 VCCIO5 (power), T12 VCCIO4 (power), T15 VCCAUX (power), T16 VCCAUX (power), U2 VCCJ (power)
part K pins: A1 GND (power), A22 GND (power), AB1 GND (power), AB22 GND (power), H8 GND (power), H15 GND (power), J9 GND (power), J10 GND (power), J11 GND (power), J12 GND (power), J13 GND (power), J14 GND (power), K9 GND (power), K10 GND (power), K11 GND (power), K12 GND (power), K13 GND (power), K14 GND (power), L9 GND (power), L10 GND (power), L11 GND (power), L12 GND (power), L13 GND (power), L14 GND (power), M9 GND (power), M10 GND (power), M11 GND (power), M12 GND (power), M13 GND (power), M14 GND (power), N9 GND (power), N10 GND (power), N11 GND (power), N12 GND (power), N13 GND (power), N14 GND (power), P9 GND (power), P10 GND (power), P11 GND (power), P12 GND (power), P13 GND (power), P14 GND (power), R8 GND (power), R15 GND (power)
part L pins: A2 NC, A3 NC, A4 NC, A20 NC, A21 NC, AA3 NC, AA4 NC, AA5 NC, AA19 NC, AA20 NC, AB2 NC, AB3 NC, AB4 NC, AB20 NC, B1 NC, B2 NC, B3 NC, B4 NC, B5 NC, B19 NC, B20 NC, B21 NC, B22 NC, C1 NC, C2 NC, C3 NC, C4 NC, C5 NC, C6 NC, C16 NC, C17 NC, C18 NC, C19 NC, C20 NC, C21 NC, C22 NC, D1 NC, D2 NC, D3 NC, D5 NC, D6 NC, D16 NC, D17 NC, D18 NC, D20 NC, D21 NC, D22 NC, E1 NC, E2 NC, E3 NC, E5 NC, E6 NC, E7 NC, E8 NC, E16 NC, E17 NC, E18 NC, E20 NC, E21 NC, F1 NC, F2 NC, F3 NC, F4 NC, F5 NC, F6 NC, F7 NC, F15 NC, F16 NC, F17 NC, F18 NC, F19 NC, F20 NC, G3 NC, G4 NC, G5 NC, G6 NC, G17 NC, G18 NC, G19 NC, G20 NC, G21 NC, H4 NC, H5 NC, H6 NC, H17 NC, H18 NC, H19 NC, H20 NC, J5 NC, J18 NC, J19 NC, N20 NC, P3 NC, P4 NC, P5 NC, P18 NC, P19 NC, P20 NC, R1 NC, R2 NC, R3 NC, R4 NC, R5 NC, R6 NC, R17 NC, R18 NC, R19 NC, R21 NC, R22 NC, T1 NC, T2 NC, T3 NC, T6 NC, T17 NC, T18 NC, T22 NC, U6 NC, U7 NC, U15 NC, U16 NC, U17 NC, U22 NC, V6 NC, V7 NC, V8 NC, V16 NC, V17 NC, W5 NC, W6 NC, W16 NC, W17 NC, W18 NC, Y4 NC, Y5 NC, Y6 NC, Y16 NC, Y17 NC, Y18 NC, Y19 NC
part A text: BANK 0
part B text: BANK 1
part C text: BANK 2
part D text: BANK 3
part E text: BANK 4
part F text: BANK 5
part G text: BANK 6
part H text: BANK 7

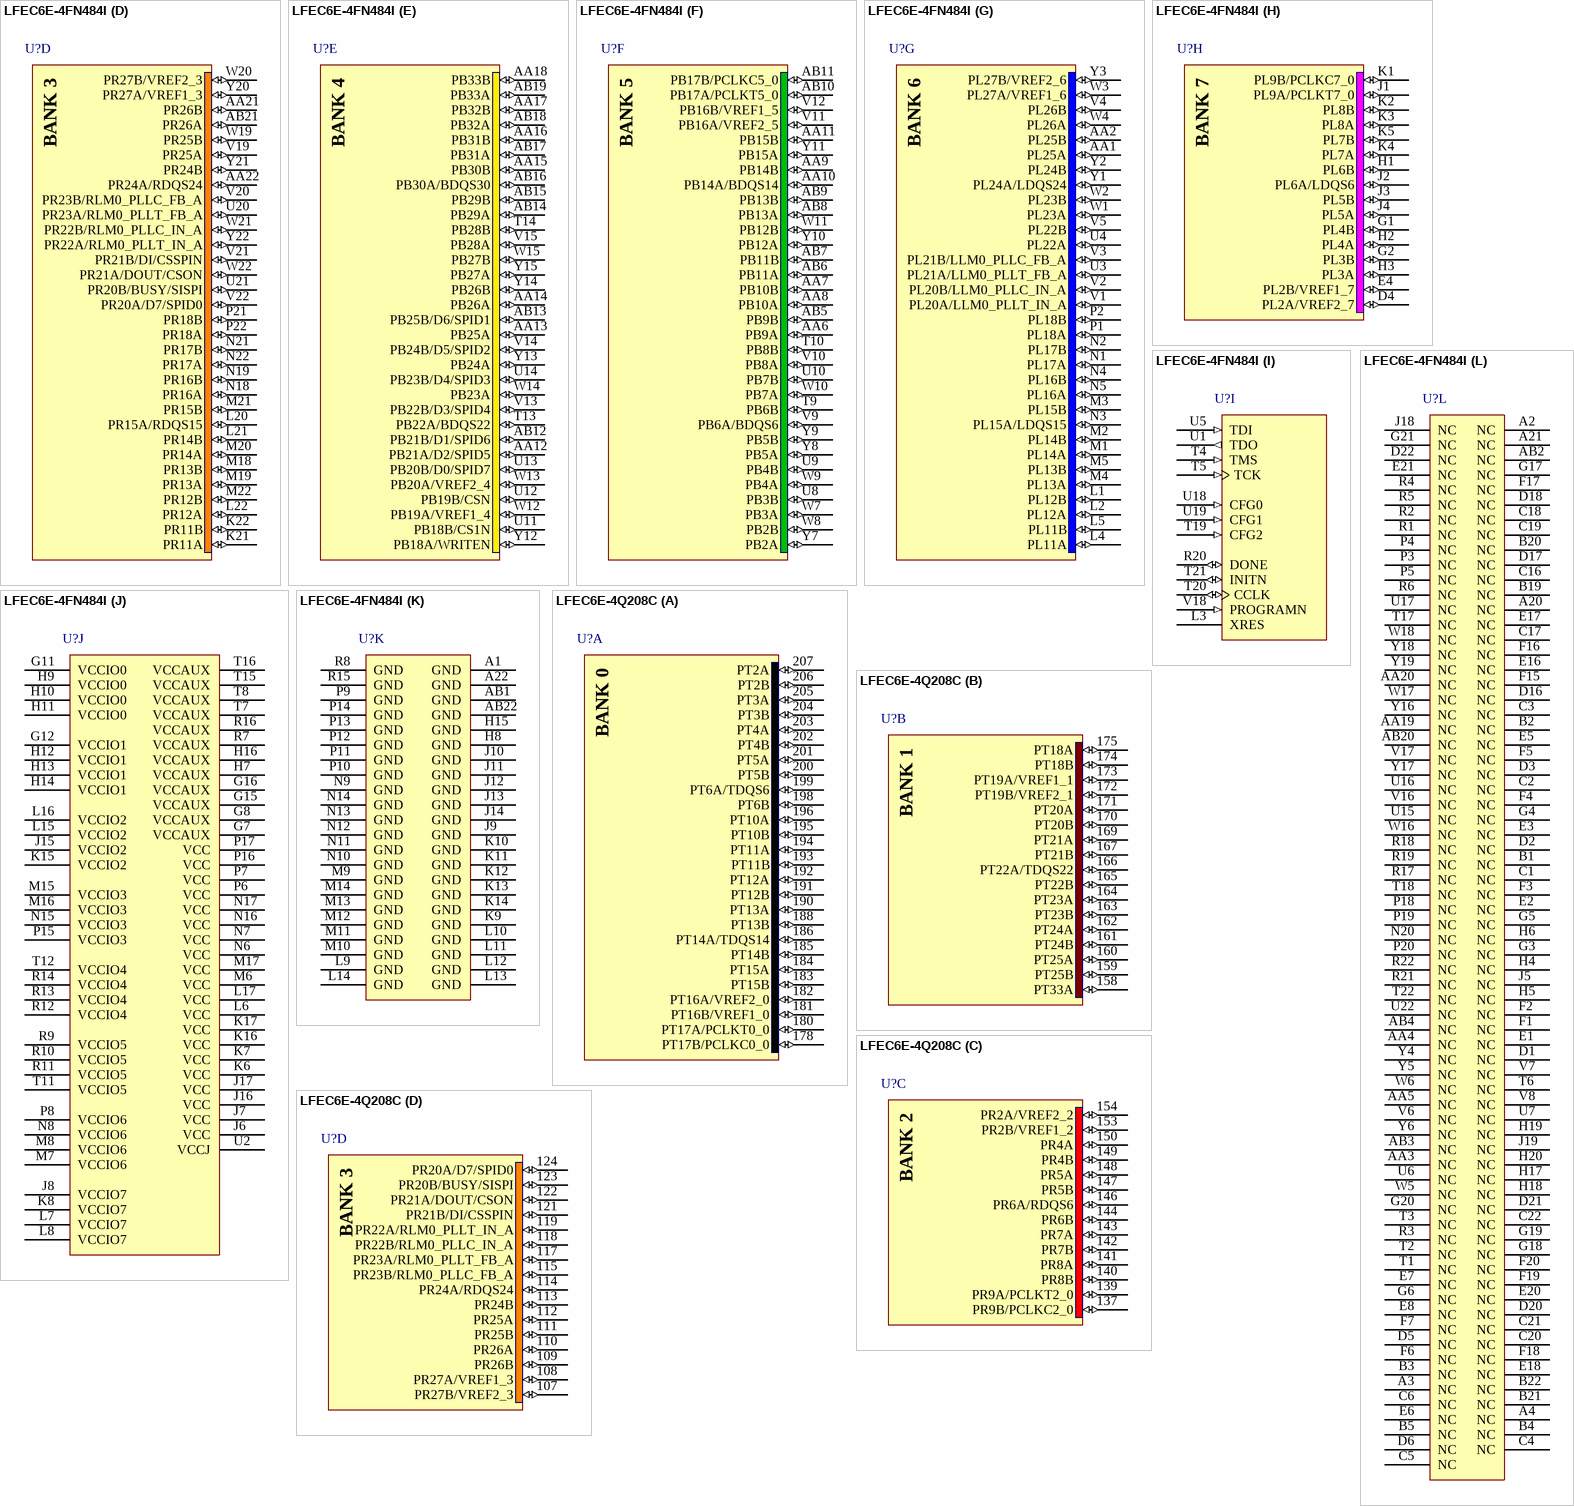
[diagram p60: symbols LFEC6E-4FN484I to LFEC6E-4Q208C]